# Altium schematic symbol library fgr.SchLib: 763 symbols (part 2 of 4)
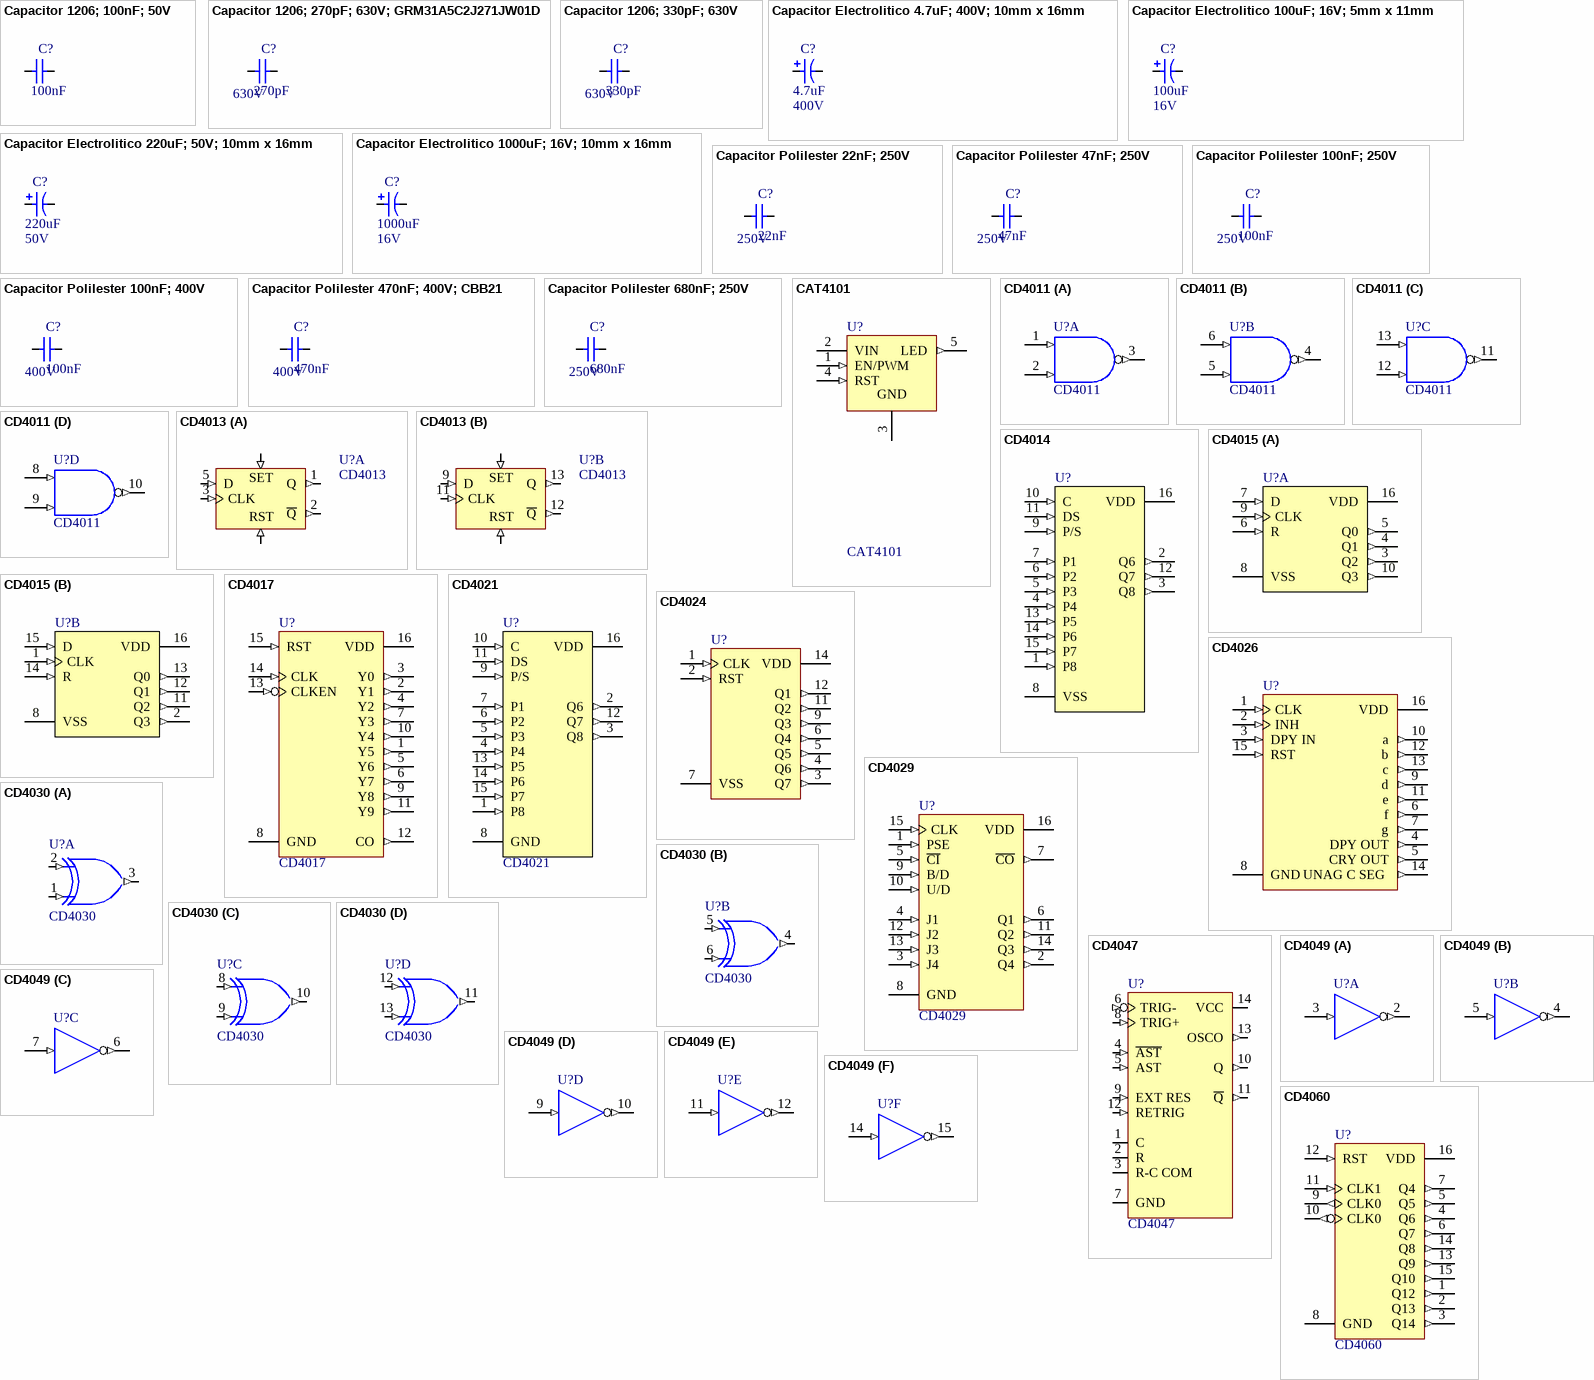
[diagram p25: symbols Capacitor 1206; 100nF; 50V to CD4060]

## Capacitor Polilester 470nF; 400V; CBB21
designator C?  Voltaje: 400V  Capacidad: 470nF  (hidden comment: Capacitor Polilester 470nF; 400V; CBB21)
Dolares Elemon: 0.21420; Codigo Elemon: CA8029620
simulation model CAPACITOR (Capacitor)
footprint CAP 6MM x 17MM - 600MILS (CAPACITOR THROUGH-HOLE)
pins: 1, 2

## Capacitor Polilester 680nF; 250V
designator C?  Voltaje: 250V  Capacidad: 680nF  (hidden comment: Capacitor Polilester 680nF; 250V)
Dolares Elemon: 0.32151; Codigo Elemon: CA3509329
simulation model CAPACITOR (Capacitor)
footprint cap600th_18x9
pins: 1, 2

## CAT4101
designator U?
Revision: 17-Jul-2002: Re-released for DXP Platform.
footprint TO263-5 (ENCAPSULADO TO263)
pins: 1 EN/PWM (in), 2 VIN (power), 3 GND (power), 4 RST (in), 5 LED (out)

## CD4011
designator U?
Quad 2-Input NAND Gate; Price: ?
footprint DIP14 (DIP14 IC)
pins on every part: 7 GND (power) hidden to GND, 14 VCC (power) hidden to VCC
part A pins: 1 A (in), 2 B (in), 3 ~{O} (out)
part B pins: 4 ~{O} (out), 5 B (in), 6 A (in)
part C pins: 11 ~{O} (out), 12 B (in), 13 A (in)
part D pins: 8 A (in), 9 B (in), 10 ~{O} (out)

## CD4013
designator U?
Dual D-Type Flip-Flop
footprint dip14z (ZOCALO DIP14)
pins on every part: 7 GND (power) hidden to GND, 14 VDD (power) hidden to VDD
part A pins: 1 Q (out), 2 ~{Q} (out), 3 CLK (in), 4 RST (in), 5 D (in), 6 S (in)
part B pins: 8 S (in), 9 D (in), 10 RST (in), 11 CLK (in), 12 ~{Q} (out), 13 Q (out)
part A text: SET
part B text: SET

## CD4014
designator U?
8-Bit Static Shift Register; Price: ?
footprint DIP16 (DIP16 IC)
footprint DIP16Z (ZOCALO DIP16)
pins: 1 P8 (in), 2 Q6 (out), 3 Q8 (out), 4 P4 (in), 5 P3 (in), 6 P2 (in), 7 P1 (in), 8 VSS (power), 9 P/S (in), 10 C (in), 11 DS (in), 12 Q7 (out), 13 P5 (in), 14 P6 (in), 15 P7 (in), 16 VDD (power)

## CD4015
designator U?
Dual 4-Bit Static Shift Register; Price: ?
footprint DIP16Z (ZOCALO DIP16)
pins on every part: 8 VSS (power), 16 VDD (power)
part A pins: 3 Q2 (out), 4 Q1 (out), 5 Q0 (out), 6 R (in), 7 D (in), 9 CLK (in), 10 Q3 (out)
part B pins: 1 CLK (in), 2 Q3 (out), 11 Q2 (out), 12 Q1 (out), 13 Q0 (out), 14 R (in), 15 D (in)

## CD4017
designator U?
Decade Counter / Divider; Published: 8-Jun-2000; LatestRevisionDate: 04-Mar-2005; LatestRevisionNote: Stylized 3D Model Added.; DatasheetVersion: Jun-1989; PackageVersion: Jun-1999; PackageReference: J016; Publisher: Altium Limited; PackageDescription: DIP; 16 Leads; Row Spacing 7.62 mm; Pitch 2.54 mm; ComponentLink1Description: Manufacturer Link; ComponentLink1URL: http://www.ti.com/; ComponentLink2Description: Datasheet; ComponentLink2URL: http://www-s.ti.com/sc/ds/sn74hc4017.pdf
footprint DIP16 (DIP16 IC)
pins: 1 Y5 (out), 2 Y1 (out), 3 Y0 (out), 4 Y2 (out), 5 Y6 (out), 6 Y7 (out), 7 Y3 (out), 8 GND (power), 9 Y8 (out), 10 Y4 (out), 11 Y9 (out), 12 CO (out), 13 CLKEN (in), 14 CLK (in), 15 RST (in), 16 VDD (power)

## CD4021
designator U?
8-Bit Static Shift Register
footprint DIP16Z (ZOCALO DIP16)
pins: 1 P8 (in), 2 Q6 (out), 3 Q8 (out), 4 P4 (in), 5 P3 (in), 6 P2 (in), 7 P1 (in), 8 GND (power), 9 P/S (in), 10 C (in), 11 DS (in), 12 Q7 (out), 13 P5 (in), 14 P6 (in), 15 P7 (in), 16 VDD (power)

## CD4024
designator U?
7-Stage Ripple Carry Binary Counter; Revision: 17-Jul-2002: Re-released for DXP Platform.
footprint DIP14Z (ZOCALO DIP14)
pins: 1 CLK (in), 2 RST (in), 3 Q7 (out), 4 Q6 (out), 5 Q5 (out), 6 Q4 (out), 7 VSS (power), 9 Q3 (out), 11 Q2 (out), 12 Q1 (out), 14 VDD (power)

## CD4026
designator U?
Decade Counter / Divider with Decoded 7-Segment Display Output; Revision: 17-Jul-2002: Re-released for DXP Platform.
footprint DIP16Z (ZOCALO DIP16)
pins: 1 CLK (in), 2 INH (in), 3 DPY IN (in), 4 DPY OUT (out), 5 CRY OUT (out), 6 f (out), 7 g (out), 8 GND (power), 9 d (out), 10 a (out), 11 e (out), 12 b (out), 13 c (out), 14 UNAG C SEG  (out), 15 RST (in), 16 VDD (power)

## CD4029
designator U?
Presettable Up/Down Counter Binary or BCD Decade; Published: 8-Jun-2000; LatestRevisionDate: 06-Jun-2005; LatestRevisionNote: Stylized 3D Model Added.; DatasheetVersion: Sep-1988; PackageVersion: Apr-1996; PackageReference: DIP16; Publisher: Altium Limited; PackageDescription: DIP; 16 Leads; Row Spacing 7.62 mm; Pitch 2.54 mm; ComponentLink1Description: Manufacturer Link; ComponentLink1URL: http://www.st.com/
footprint DIP16 (DIP; 16 Leads; Row Spacing 7.62 mm; Pitch 2.54 mm)
pins: 1 PSE (in), 2 Q4 (out), 3 J4 (in), 4 J1 (in), 5 ~{CI} (in), 6 Q1 (out), 7 ~{CO} (out), 8 GND (power), 9 B/D (in), 10 U/D (in), 11 Q2 (out), 12 J2 (in), 13 J3 (in), 14 Q3 (out), 15 CLK (in), 16 VDD (power)

## CD4030
designator U?
Quad EXCLUSIVE-OR Gate
footprint DIP14Z (ZOCALO DIP14)
pins on every part: 7 GND (power) hidden to GND, 14 VDD (power) hidden to VDD
part A pins: 1 B (in), 2 A (in), 3 J (out)
part B pins: 4 J (out), 5 A (in), 6 B (in)
part C pins: 8 A (in), 9 B (in), 10 J (out)
part D pins: 11 J (out), 12 A (in), 13 B (in)

## CD4047
designator U?
Low-Power Monostable/Astable Multivibrator
footprint DIP14Z (ZOCALO DIP14)
pins: 1 C, 2 R, 3 R-C COM, 4 ~{AST} (in), 5 AST (in), 6 TRIG- (in), 7 GND (power), 8 TRIG+ (in), 9 EXT RES (in), 10 Q (out), 11 ~{Q} (out), 12 RETRIG (in), 13 OSCO (out), 14 VCC (power)

## CD4049
designator U?
Hex Buffer/Converter; Price: ?
footprint DIP16 (DIP16 IC)
footprint DIP16Z (ZOCALO DIP16)
pins on every part: 1 VCC (power) hidden to VCC, 8 GND (power) hidden to GND
part A pins: 2 G (out), 3 A (in)
part B pins: 4 H (out), 5 B (in)
part C pins: 6 I (out), 7 C (in)
part D pins: 9 D (in), 10 J (out)
part E pins: 11 E (in), 12 K (out)
part F pins: 14 F (in), 15 L (out)

## CD4060
designator U?
14-Stage Ripple Carry Binary Counter
footprint DIP16 (DIP16 IC)
footprint M16A_L (SOIC, 16-Leads, Body 9.9x3.9mm, Pitch 1.27mm, IPC High Density)
footprint M16A_M (SOIC, 16-Leads, Body 9.9x3.9mm, Pitch 1.27mm, IPC Low Density)
pins: 1 Q12 (out), 2 Q13 (out), 3 Q14 (out), 4 Q6 (out), 5 Q5 (out), 6 Q7 (out), 7 Q4 (out), 8 GND (power), 9 CLK0 (out), 10 CLK0 (out), 11 CLK1 (in), 12 RST (in), 13 Q9 (out), 14 Q8 (out), 15 Q10 (out), 16 VDD (power)

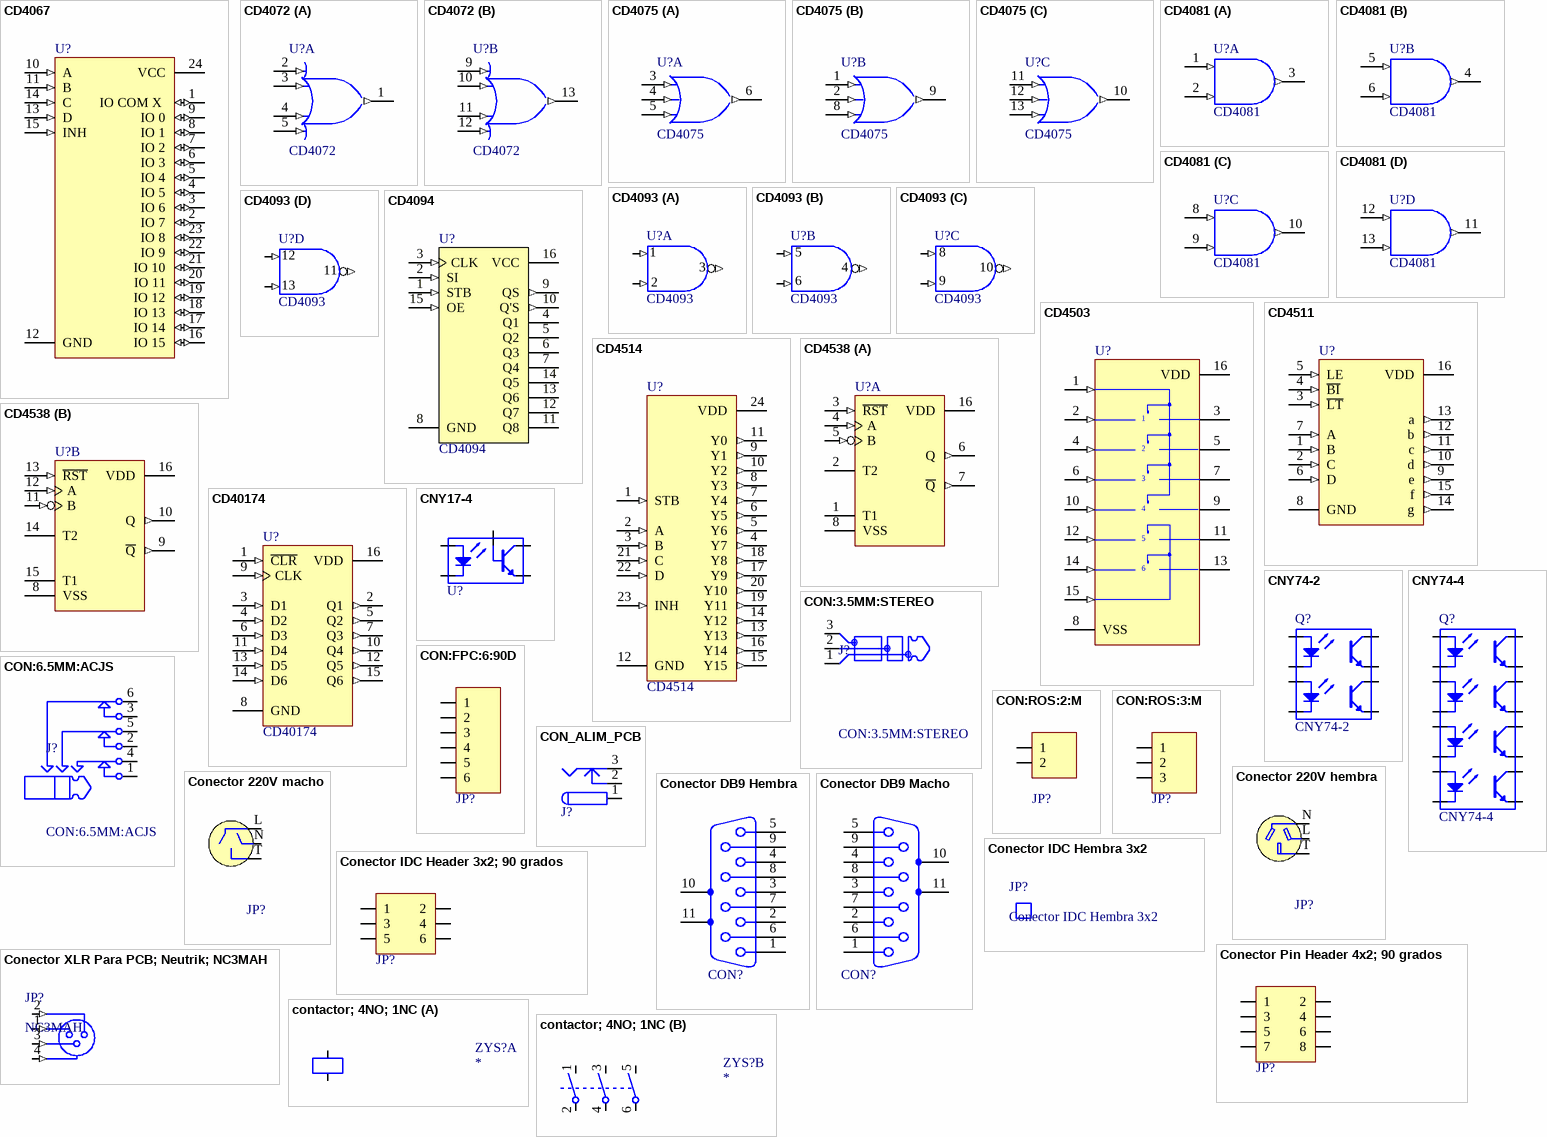
[diagram p7: symbols CD4067 to contactor; 4NO; 1NC]

## CD4067
designator U?
Analog Multiplexer/Demultiplexer; Package Information: Latest Revision: Sep-1988; Published: 8-Jun-2000; Revision: 17-Jul-2002: Re-released for DXP Platform.; Datasheet: Latest Revision: Sep-1988; Package Reference: CDIP24; Publisher: Altium Limited
footprint DIP24_600
pins: 1 IO COM X  (io), 2 IO 7 (io), 3 IO 6 (io), 4 IO 5 (io), 5 IO 4 (io), 6 IO 3 (io), 7 IO 2 (io), 8 IO 1 (io), 9 IO 0 (io), 10 A (in), 11 B (in), 12 GND (power), 13 D (in), 14 C (in), 15 INH (in), 16 IO 15 (io), 17 IO 14 (io), 18 IO 13 (io), 19 IO 12 (io), 20 IO 11 (io), 21 IO 10 (io), 22 IO 9 (io), 23 IO 8 (io), 24 VCC (power)

## CD4072
designator U?
Dual 4-Input OR Gate
footprint dip14z (ZOCALO DIP14)
pins on every part: 7 GND (power) hidden to GND, 14 VDD (power) hidden to VDD
part A pins: 1 J (out), 2 A (in), 3 B (in), 4 C (in), 5 D (in)
part B pins: 9 E (in), 10 F (in), 11 G (in), 12 H (in), 13 K (out)

## CD4075
designator U?
Triple 3-Input OR Gate
footprint dip14z (ZOCALO DIP14)
pins on every part: 7 GND (power) hidden to GND, 14 VCC (power) hidden to VCC
part A pins: 3 A (in), 4 B (in), 5 C (in), 6 Y (out)
part B pins: 1 A (in), 2 B (in), 8 C (in), 9 Y (out)
part C pins: 10 Y (out), 11 A (in), 12 B (in), 13 C (in)

## CD4081
designator U?
Quad 2-Input AND Buffered B series Gate
footprint DIP14 (DIP14 IC)
footprint M14A_L (SOIC, 14-Leads, Body 8.6x3.9mm, Pitch 1.27mm, IPC High Density)
footprint M14A_M (SOIC, 14-Leads, Body 8.6x3.9mm, Pitch 1.27mm, IPC Low Density)
pins on every part: 7 GND (power) hidden to GND, 14 VDD (power) hidden to VDD
part A pins: 1 A (in), 2 B (in), 3 J (out)
part B pins: 4 J (out), 5 A (in), 6 B (in)
part C pins: 8 A (in), 9 B (in), 10 J (out)
part D pins: 11 J (out), 12 A (in), 13 B (in)

## CD4093
designator U?
Quad 2-Input NAND Schmitt Trigger
footprint DIP14Z (ZOCALO DIP14)
pins on every part: 7 GND (power) hidden to GND, 14 VCC (power) hidden to VCC
part A pins: 1 A (in), 2 B (in), 3 J (out)
part B pins: 4 K (out), 5 C (in), 6 D (in)
part C pins: 8 E (in), 9 F (in), 10 L (out)
part D pins: 11 M (out), 12 G (in), 13 H (in)

## CD4094
designator U?
8 Bit SIPO Shift Latch Register (3-State); Price: ?
footprint dip16z (ZOCALO DIP16)
pins: 1 STB (in), 2 SI (in), 3 CLK (in), 4 Q1 (hiz), 5 Q2 (hiz), 6 Q3 (hiz), 7 Q4 (hiz), 8 GND (power), 9 QS (out), 10 Q'S (out), 11 Q8 (hiz), 12 Q7 (hiz), 13 Q6 (hiz), 14 Q5 (hiz), 15 OE (in), 16 VCC (power)

## CD4503
designator U?
Hex Non-Inverting 3-State Buffer; Price: ?
footprint DIP16 (DIP16 IC)
footprint DIP16Z (ZOCALO DIP16)
pins: 1 DISA (in), 2 IN1 (in), 3 OUT1 (hiz), 4 IN2 (in), 5 OUT2 (hiz), 6 IN3 (in), 7 OUT3 (hiz), 8 VSS (power), 9 OUT4 (hiz), 10 IN4 (in), 11 OUT5 (hiz), 12 IN5 (in), 13 OUT6 (hiz), 14 IN6 (in), 15 DISB (in), 16 VDD (power)

## CD4511
designator U?
BCD-to-7 Segment Latch/Decoder/Driver
footprint DIP16Z (ZOCALO DIP16)
pins: 1 B (in), 2 C (in), 3 ~{LT} (in), 4 ~{BI} (in), 5 LE (in), 6 D (in), 7 A (in), 8 GND (power), 9 e (out), 10 d (out), 11 c (out), 12 b (out), 13 a (out), 14 g (out), 15 f (out), 16 VDD (power)

## CD4514
designator U?
4 Bit Latched/4-to-16-Line Decoder; Published: 17-Jul-2002; LatestRevisionDate: 04-Mar-2005; LatestRevisionNote: Stylized 3D Model Added.; DatasheetVersion: Jan-1999; PackageVersion: 2000; PackageReference: N24A; Publisher: Altium Limited; PackageDescription: DIP; 24 Leads; Row Spacing 15.24 mm; Pitch 2.54 mm; ComponentLink1Description: Manufacturer Link; ComponentLink1URL: http://www.fairchildsemi.com/; ComponentLink2Description: Datasheet; ComponentLink2URL: http://www.fairchildsemi.com/ds/CD%2FCD4514BC.pdf
footprint dip24w (DIP; 24 Leads; Row Spacing 15.24 mm; Pitch 2.54 mm)
pins: 1 STB (in), 2 A (in), 3 B (in), 4 Y7 (out), 5 Y6 (out), 6 Y5 (out), 7 Y4 (out), 8 Y3 (out), 9 Y1 (out), 10 Y2 (out), 11 Y0 (out), 12 GND (power), 13 Y13 (out), 14 Y12 (out), 15 Y15 (out), 16 Y14 (out), 17 Y9 (out), 18 Y8 (out), 19 Y11 (out), 20 Y10 (out), 21 C (in), 22 D (in), 23 INH (in), 24 VDD (power)

## CD4538
designator U?
Dual Monostable Multivibrator; Price: ?
footprint SO16 (SO16 IC)
footprint SOIC16 (SOIC 16 IC)
pins on every part: 8 VSS (power), 16 VDD (power)
part A pins: 1 T1, 2 T2, 3 ~{RST} (in), 4 A (in), 5 B (in), 6 Q (out), 7 ~{Q} (out)
part B pins: 9 ~{Q} (out), 10 Q (out), 11 B (in), 12 A (in), 13 ~{RST} (in), 14 T2, 15 T1

## CD40174
designator U?
Hex D-Type Flip-Flop
footprint dip16z (ZOCALO DIP16)
pins: 1 ~{CLR} (in), 2 Q1 (out), 3 D1 (in), 4 D2 (in), 5 Q2 (out), 6 D3 (in), 7 Q3 (out), 8 GND (power), 9 CLK (in), 10 Q4 (out), 11 D4 (in), 12 Q5 (out), 13 D5 (in), 14 D6 (in), 15 Q6 (out), 16 VDD (power)

## CNY17-4
designator U?
Optoaislador; Price: ?
footprint DIP6Z (ZOCALO DIP 6)
simulation model OPTOCOUPLER (SUBCKT)
pins: 1 A, 2 K, 4 E, 5 C, 6 B

## CNY74-2
designator Q?
Optoaislador; Price: ?
footprint DIP8Z (ZOCALO DIP 8)
pins: 1 A, 2 K, 3 K, 4 A, 5 E, 6 C, 7 C, 8 E

## CNY74-4
designator Q?
Optoaislador; Price: ?
footprint DIP16Z (ZOCALO DIP16)
pins: 1 A, 2 K, 3 K, 4 A, 5 A, 6 K, 7 K, 8 A, 9 E, 10 C, 11 C, 12 E, 13 E, 14 C, 15 C, 16 E

## CON:3.5MM:STEREO
designator J?
Stereo 3.5mm audio connector male
pins: 1, 2, 3

## CON:6.5MM:ACJS
designator J?
CON:6.5MM:ACJS Stereo audio connector
footprint audio6.5
footprint CON:6.5MM:ACJS
pins: 1, 2, 3, 4, 5, 6

## CON:FPC:6:90D
designator JP?  (value not drawn)
Header 6x1; Price: ?
footprint CON:FPC:6:90D (Footprint not found)
footprint CONPOL6x1_90
footprint BORNERA_E6
footprint CONPOL6x1
footprint HDR6x1_90
footprint CONPOL6x1-.156
pins: 1, 2, 3, 4, 5, 6

## CON:ROS:2:M
designator JP?  (value not drawn)
Price: ?
footprint CON_ROS_2_M
pins: 1, 2

## CON:ROS:3:M
designator JP?  (value not drawn)
Price: ?
footprint CON_ROS_3_M
pins: 1, 2, 3

## CON_ALIM_PCB
designator J?  (value not drawn)
Conector DC Alimentacion 2mm; 90 grados; Codigo Elemon: MC6691355; Dolares Elemon: 0.24205
footprint CON_ALIM_PCB_V2 (Footprint not found)
footprint CON_ALIM_PCB
footprint CON_ALIM_CH
pins: 1 (power), 2 (power), 3 (power)

## Conector 220V hembra
designator JP?  (value not drawn)
Con220V; Price: ?
pins: 1, 2, 3
text: N; L; T

## Conector 220V macho
designator JP?  (value not drawn)
Con220V; Price: ?
pins: 1, 2, 3
text: L; N; T

## Conector DB9 Hembra
designator CON?  (value not drawn)
Price: ?
footprint db9_female
pins: 1, 2, 3, 4, 5, 6, 7, 8, 9, 10 MH1, 11 MH2

## Conector DB9 Macho
designator CON?  (value not drawn)
Price: ?
footprint DB9_MALE (Conector DB9)
pins: 1, 2, 3, 4, 5, 6, 7, 8, 9, 10 MH1, 11 MH2

## Conector IDC Header 3x2; 90 grados
designator JP?  (value not drawn)
Codigo Ebay: 171048592886; Dolares Ebay x100: 19.99
footprint IDC3X2_90
pins: 1, 2, 3, 4, 5, 6

## Conector IDC Hembra 3x2
designator JP?  (mechanical)
Codigo Ebay: 121471788305; Dolares Mouser x100: 8.35

## Conector Pin Header 4x2; 90 grados
designator JP?  (value not drawn)
Codigo Elemon: CO4901090; Dolares Elemon x0.1: 0.66710
footprint HDR4x2_90
pins: 1, 2, 3, 4, 5, 6, 7, 8

## Conector XLR Para PCB; Neutrik; NC3MAH
designator JP?, comment NC3MAH
Conector XLR Para PCB; Neutrik; NC3MAH; Codigo Mouser: 568-NC3MAH; Dolares Mouser: 1.22; Dolares Mouser x10: 1.19; Dolares Mouser x25: 1.12; Dolares Mouser x50: 1.07; Dolares Mouser x100: 1.03
footprint XLR NC3MAH
pins: 1 (in), 2 (in), 3 (in), 4 (in)

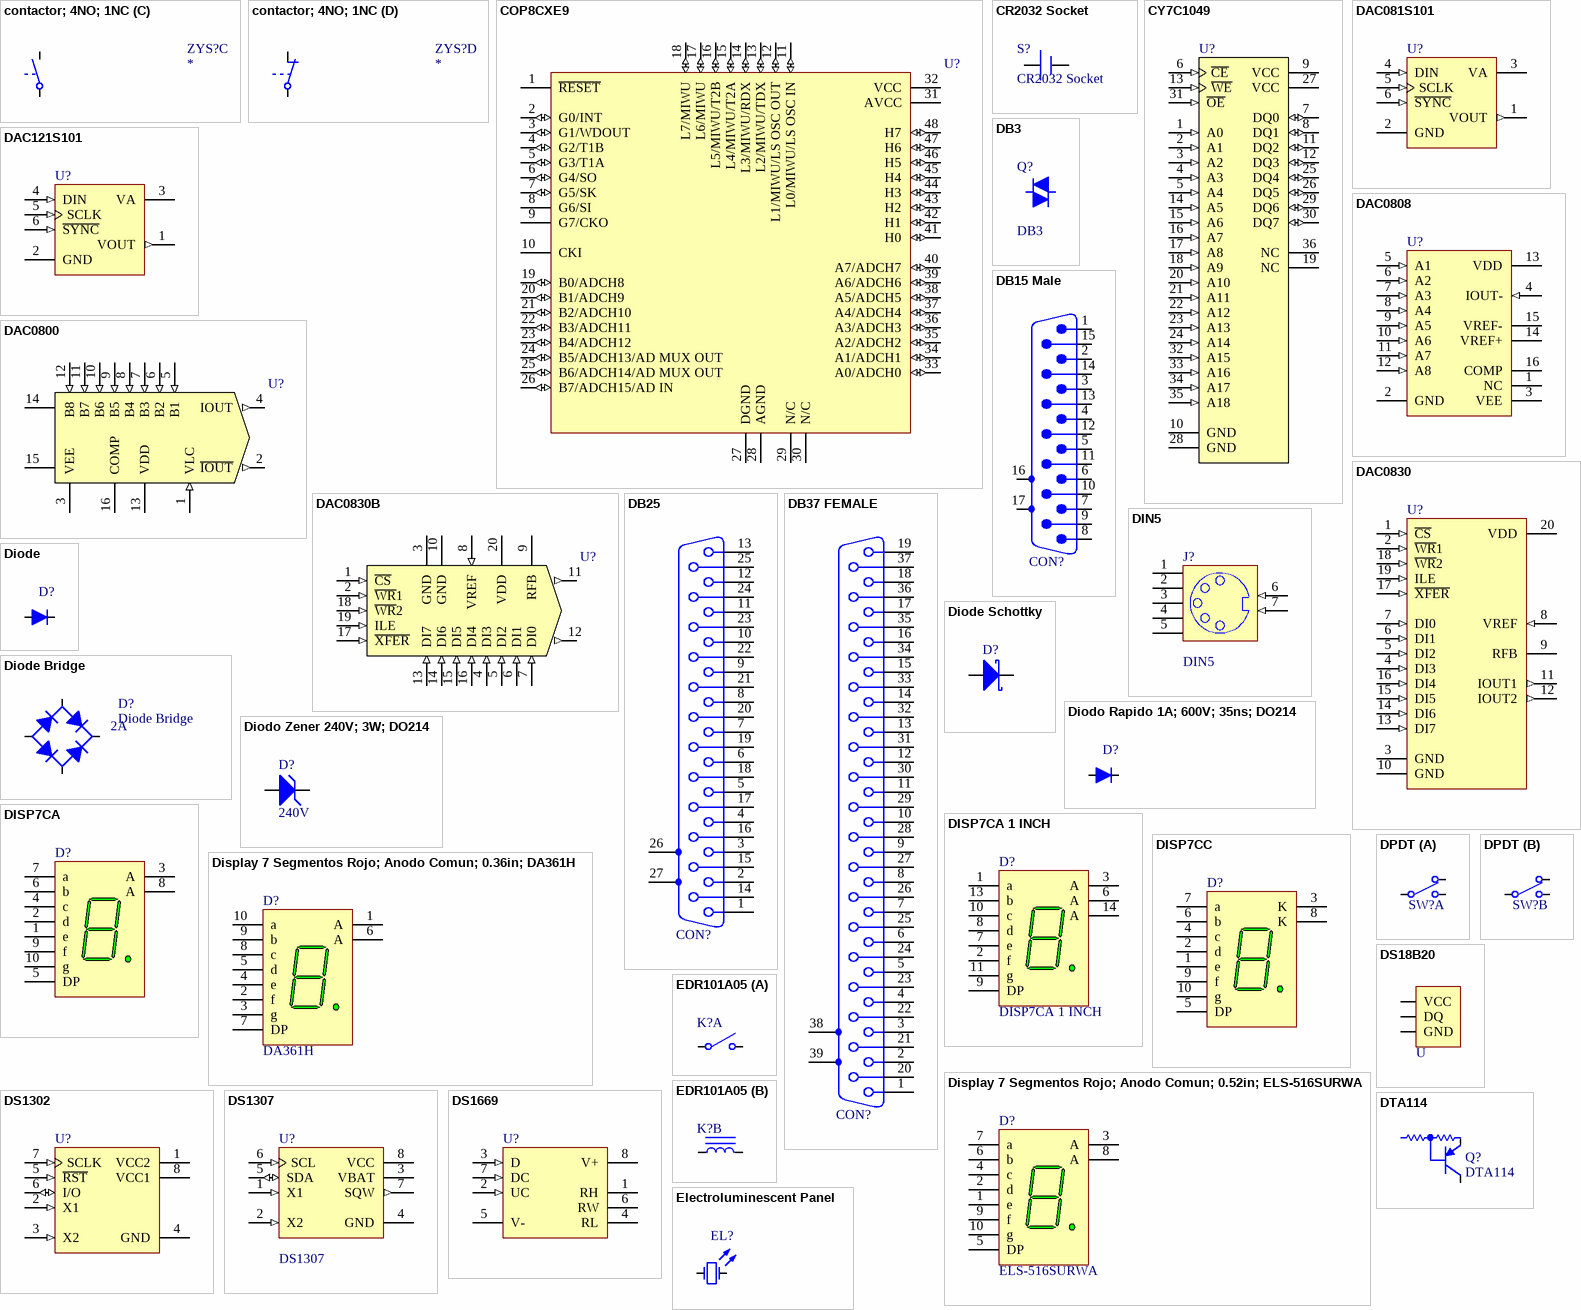
[diagram p8: symbols contactor; 4NO; 1NC to Electroluminescent Panel]

## contactor; 4NO; 1NC
designator ZYS?
part A pins: A1, A2
part B pins: 1, 2, 3, 4, 5, 6
part C pins: 13, 14
part D pins: 21, 22

## COP8CXE9
designator U?
8-Bit Microcontroller; Price: ?
footprint TSSOP48 (TSSOP 48 IC)
pins: 1 ~{RESET}, 2 G0/INT (io), 3 G1/WDOUT (io), 4 G2/T1B (io), 5 G3/T1A (io), 6 G4/SO (io), 7 G5/SK (io), 8 G6/SI, 9 G7/CKO, 10 CKI, 11 L0/MIWU/LS OSC IN (io), 12 L1/MIWU/LS OSC OUT (io), 13 L2/MIWU/TDX (io), 14 L3/MIWU/RDX (io), 15 L4/MIWU/T2A (io), 16 L5/MIWU/T2B (io), 17 L6/MIWU (io), 18 L7/MIWU (io), 19 B0/ADCH8 (io), 20 B1/ADCH9 (io), 21 B2/ADCH10 (io), 22 B3/ADCH11 (io), 23 B4/ADCH12 (io), 24 B5/ADCH13/AD MUX OUT (io), 25 B6/ADCH14/AD MUX OUT (io), 26 B7/ADCH15/AD IN (io), 27 DGND (power), 28 AGND (power), 29 N/C, 30 N/C, 31 AVCC (power), 32 VCC (power), 33 A0/ADCH0 (io), 34 A1/ADCH1 (io), 35 A2/ADCH2 (io), 36 A3/ADCH3 (io), 37 A4/ADCH4 (io), 38 A5/ADCH5 (io), 39 A6/ADCH6 (io), 40 A7/ADCH7 (io), 41 H0 (io), 42 H1 (io), 43 H2 (io), 44 H3 (io), 45 H4 (io), 46 H5 (io), 47 H6 (io), 48 H7 (io)

## CR2032 Socket
designator S?
footprint CR2032_UE
pins: 1 +, 2 -

## CY7C1049
designator U?
512K x 8 SRAM; Revision: 17-Jul-2002: PCB footprint, 'DIP-P32/X1.2' replaced; Re-released for DXP Platform.
pins: 1 A0 (in), 2 A1 (in), 3 A2 (in), 4 A3 (in), 5 A4 (in), 6 ~{CE} (in), 7 DQ0 (io), 8 DQ1 (io), 9 VCC (power), 10 GND (power), 11 DQ2 (io), 12 DQ3 (io), 13 ~{WE} (in), 14 A5 (in), 15 A6 (in), 16 A7 (in), 17 A8 (in), 18 A9 (in), 19 NC, 20 A10 (in), 21 A11 (in), 22 A12 (in), 23 A13 (in), 24 A14 (in), 25 DQ4 (io), 26 DQ5 (io), 27 VCC (power), 28 GND (power), 29 DQ6 (io), 30 DQ7 (io), 31 ~{OE} (in), 32 A15 (in), 33 A16 (in), 34 A17 (in), 35 A18 (in), 36 NC

## DAC081S101
designator U?
8-Bit Digital-to-Analog Converter with RRO; Price: ?
footprint TSOT6 (Small Outline; 6 Leads; Body Width 3 mm; Pitch 1.27 mm)
pins: 1 VOUT (out), 2 GND (power), 3 VA (power), 4 DIN (in), 5 SCLK (in), 6 ~{SYNC} (in)

## DAC121S101
designator U?
12-Bit Digital-to-Analog Converter with RRO; Price: ?
footprint TSOT6 (Small Outline; 6 Leads; Body Width 3 mm; Pitch 1.27 mm)
pins: 1 VOUT (out), 2 GND (power), 3 VA (power), 4 DIN (in), 5 SCLK (in), 6 ~{SYNC} (in)

## DAC0800
designator U?
8-Bit Digital-to-Analog Converter
footprint DIP16Z (ZOCALO DIP16)
footprint DIP16 (DIP16 IC)
footprint so16 (SO16 IC)
pins: 1 VLC (in), 2 ~{IOUT} (out), 3 VEE (power), 4 IOUT (out), 5 B1 (in), 6 B2 (in), 7 B3 (in), 8 B4 (in), 9 B5 (in), 10 B6 (in), 11 B7 (in), 12 B8 (in), 13 VDD (power), 14 VREF+, 15 VREF-, 16 COMP

## DAC0808
designator U?
8-Bit D/A Converter; Package Information: Latest Revision: 2000; Published: 15-Apr-2002; Package Reference: N16A; Publisher: Altium Limited
footprint DIP16Z (ZOCALO DIP16)
pins: 1 NC, 2 GND (power), 3 VEE (power), 4 IOUT- (in), 5 A1 (in), 6 A2 (in), 7 A3 (in), 8 A4 (in), 9 A5 (in), 10 A6 (in), 11 A7 (in), 12 A8 (in), 13 VDD (power), 14 VREF+, 15 VREF-, 16 COMP

## DAC0830
designator U?
8-Bit µP-Compatible, Double-Buffered Digital-to-Analog Converter
footprint dip20Z
pins: 1 ~{CS} (in), 2 ~{WR}1 (in), 3 GND (power), 4 DI3 (in), 5 DI2 (in), 6 DI1 (in), 7 DI0 (in), 8 VREF (in), 9 RFB, 10 GND (power), 11 IOUT1 (out), 12 IOUT2 (out), 13 DI7 (in), 14 DI6 (in), 15 DI5 (in), 16 DI4 (in), 17 ~{XFER} (in), 18 ~{WR}2 (in), 19 ILE (in), 20 VDD (power)

## DAC0830B
designator U?
8-Bit µP-Compatible, Double-Buffered Digital-to-Analog Converter
footprint dip20Z
pins: 1 ~{CS} (in), 2 ~{WR}1 (in), 3 GND (power), 4 DI3 (in), 5 DI2 (in), 6 DI1 (in), 7 DI0 (in), 8 VREF (in), 9 RFB, 10 GND (power), 11 IOUT1 (out), 12 IOUT2 (out), 13 DI7 (in), 14 DI6 (in), 15 DI5 (in), 16 DI4 (in), 17 ~{XFER} (in), 18 ~{WR}2 (in), 19 ILE (in), 20 VDD (power)

## DB3
designator Q?
Diac; Revision: July-2002: Re-released for DXP Platform.
footprint DO35
pins: 1 M1, 2 M2

## DB15 Male
designator CON?  (value not drawn)
Price: ?
footprint HDR5x1 (HEADER 5x1)
pins: 1, 2, 3, 4, 5, 6, 7, 8, 9, 10, 11, 12, 13, 14, 15, 16 MH1, 17 MH2

## DB25
designator CON?
Conector DB25; Price: ?
footprint DB25_MALE (CONECTOR DB25)
pins: 1, 2, 3, 4, 5, 6, 7, 8, 9, 10, 11, 12, 13, 14, 15, 16, 17, 18, 19, 20, 21, 22, 23, 24, 25, 26 MH1, 27 MH2

## DB37 FEMALE
designator CON?  (value not drawn)
Conector DB37 Female; Price: ?
footprint DB37_FEMALE (CONECTOR DB37)
pins: 1, 2, 3, 4, 5, 6, 7, 8, 9, 10, 11, 12, 13, 14, 15, 16, 17, 18, 19, 20, 21, 22, 23, 24, 25, 26, 27, 28, 29, 30, 31, 32, 33, 34, 35, 36, 37, 38, 39

## DIN5
designator J?
footprint din5
pins: 1, 2, 3, 4, 5, 6 (in), 7 (in)

## Diode
designator D?
Diodo; Price: ?
footprint DIODE300 (DIODO THROUGH-HOLE)
footprint dsmd2mm (DIODO SMD)
footprint RCSMD (RESISTENCIA/CAPACITOR DE MONTAJE SUPERFICIAL)
footprint diode300 (DIODO THROUGH-HOLE)
footprint diode300_90
footprint DSMD1MM (DIODO SMD)
footprint DIODE600
simulation model DIODO (MDL)
footprint diode400
simulation model DIODE (SUBCKT)
footprint DSMD3
pins: 1, 2

## Diode Bridge
designator D?  Corriente: 2A
Full Wave Diode Bridge; Price: ?
footprint D_BR_KBL (DIODE BRIDGE)
footprint DIODE BRIDGE2
footprint Diode bridge3
simulation model Bridge (Ideal bridge)
footprint diode bridge4; pin to pad 1>3 3>4 4>1
footprint Diode Bridge5; pin to pad 1>3 3>4 4>1
pins: 1 A, 2 C, 3 K, 4 C

## Diode Schottky
designator D?
Schottky Diode; Revision: July-2002: Re-released for DXP Platform.
footprint DIODE300 (DIODO THROUGH-HOLE)
footprint diode600
pins: 1 A, 2 K

## Diodo Rapido 1A; 600V; 35ns; DO214
designator D?, comment ES1J  (value not drawn)
Diodo Rapido 1A; 600V; 35ns; DO214; Codigo Elemon: DI1321000; Dolares Elemon: 0.17181
simulation model DIODO (MDL)
footprint DO214
simulation model DIODE (SUBCKT)
pins: 1, 2

## Diodo Zener 240V; 3W; DO214
designator D?, comment Voltaje: 240V  (hidden comment: BZG03C240TR)
Diodo Zener 240V; 3W; DO214; Codigo Mouser: 78-BZG03C240-TR3; Dolares Mouser: 0.49; Dolares Mouser x10: 0.325; Dolares Mouser x100: 0.202; Dolares Mouser x500: 0.181
simulation model DZ (SUBCKT)
footprint DO214
pins: 1 A, 2 K

## DISP7CA
designator D?
CA 7-Segment Display; Price: ?
footprint DISP7 (DISPLAY 7 SEGMENTOS)
pins: 1 e "Cathode", 2 d "Cathode", 3 A "Anode", 4 c "Cathode", 5 DP "Cathode", 6 b "Cathode", 7 a "Cathode", 8 A "Anode", 9 f "Cathode", 10 g "Cathode"

## DISP7CA 1 INCH
designator D?
CA 7-Segment Display; Price: ?
footprint disp7_25mm (DISPLAY 7 SEGMENTOS)
pins: 1 a "Cathode", 2 f "Cathode", 3 A "Anode", 6 A "Anode", 7 e "Cathode", 8 d "Cathode", 9 DP "Cathode", 10 c "Cathode", 11 g "Cathode", 13 b "Cathode", 14 A "Anode"

## DISP7CC
designator D?
CC 7-Segment Display; Price: ?
footprint DISP7 (DISPLAY 7 SEGMENTOS)
pins: 1 e "Anode", 2 d "Anode", 3 K "Cathode", 4 c "Anode", 5 DP "Anode", 6 b "Anode", 7 a "Anode", 8 K "Cathode", 9 f "Anode", 10 g "Anode"

## Display 7 Segmentos Rojo; Anodo Comun; 0.36in; DA361H
designator D?, comment DA361H
footprint DISP7_2 (DISPLAY 7 SEGMENTOS)
pins: 1 A "Anode", 2 f "Cathode", 3 g "Cathode", 4 e "Cathode", 5 d "Cathode", 6 A "Anode", 7 DP "Cathode", 8 c "Cathode", 9 b "Cathode", 10 a "Cathode"

## Display 7 Segmentos Rojo; Anodo Comun; 0.52in; ELS-516SURWA
designator D?, comment ELS-516SURWA
Dolares Elemon: 0.62538; Codigo Elemon: OP1716590
footprint DISP7 (DISPLAY 7 SEGMENTOS)
pins: 1 e "Cathode", 2 d "Cathode", 3 A "Anode", 4 c "Cathode", 5 DP "Cathode", 6 b "Cathode", 7 a "Cathode", 8 A "Anode", 9 f "Cathode", 10 g "Cathode"

## DPDT
designator SW?  (value not drawn)
2 Switches de 2 posiciones; Price: ?
footprint 2PDT - CARLING
footprint 2pdt - alpha
part A pins: 1, 2, 3
part B pins: 4, 5, 6

## DS18B20
designator U  (value not drawn)
Temp Sensor; Price: ?
footprint conpol3x1 (CONECTOR POLARIZADO 3x1)
footprint TO92 (DISPOSITIVO DE ENCAPSULADO TO-92)
footprint BORNERA_E3 (BORNERA ENCHUFABLE 3 CONTACTOS)
footprint CONPOL3x1-.156 (CONECTOR POLARIZADO 2 CONTACTOR 0.156'' PASO)
footprint bornera3
footprint dc_plug
footprint BORNERA_E3_150mils (BORNERA ENCHUFABLE 3 CONTACTOS 150mils)
pins: 1 GND, 2 DQ, 3 VCC

## DS1302
designator U?
Trickle Charge Timekeeping Chip; Revision: 17-Jul-2002: Re-released for DXP Platform.
footprint DIP8Z (ZOCALO DIP 8)
footprint SO8 (SO8 IC)
pins: 1 VCC2 (power), 2 X1 (in), 3 X2 (in), 4 GND (power), 5 ~{RST} (in), 6 I/O (io), 7 SCLK (in), 8 VCC1 (power)

## DS1307
designator U?
Trickle Charge Timekeeping Chip; Revision: 17-Jul-2002: Re-released for DXP Platform.
footprint DIP8Z (ZOCALO DIP 8)
pins: 1 X1 (in), 2 X2 (in), 3 VBAT (power), 4 GND (power), 5 SDA (io), 6 SCL (in), 7 SQW (out), 8 VCC (power)

## DS1669
designator U?
Electronic Digital Rheostat
footprint DIP8Z (ZOCALO DIP 8)
pins: 1 RH, 2 UC (in), 3 D (in), 4 RL, 5 V- (power), 6 RW, 7 DC (in), 8 V+ (power)

## DTA114
designator Q?
footprint TO92D (DISPOSITIVO DE ENCAPSULADO TO-92)
pins: 1 GND, 2 OUT, 3 IN

## EDR101A05
designator K?  (value not drawn)
Price: ?
footprint SIP4
part A pins: 1, 7
part B pins: 3, 5

## Electroluminescent Panel
designator EL?, comment El  (value not drawn)
Electroluminescent Panel
pins: 1 OSC1, 2 OSC2

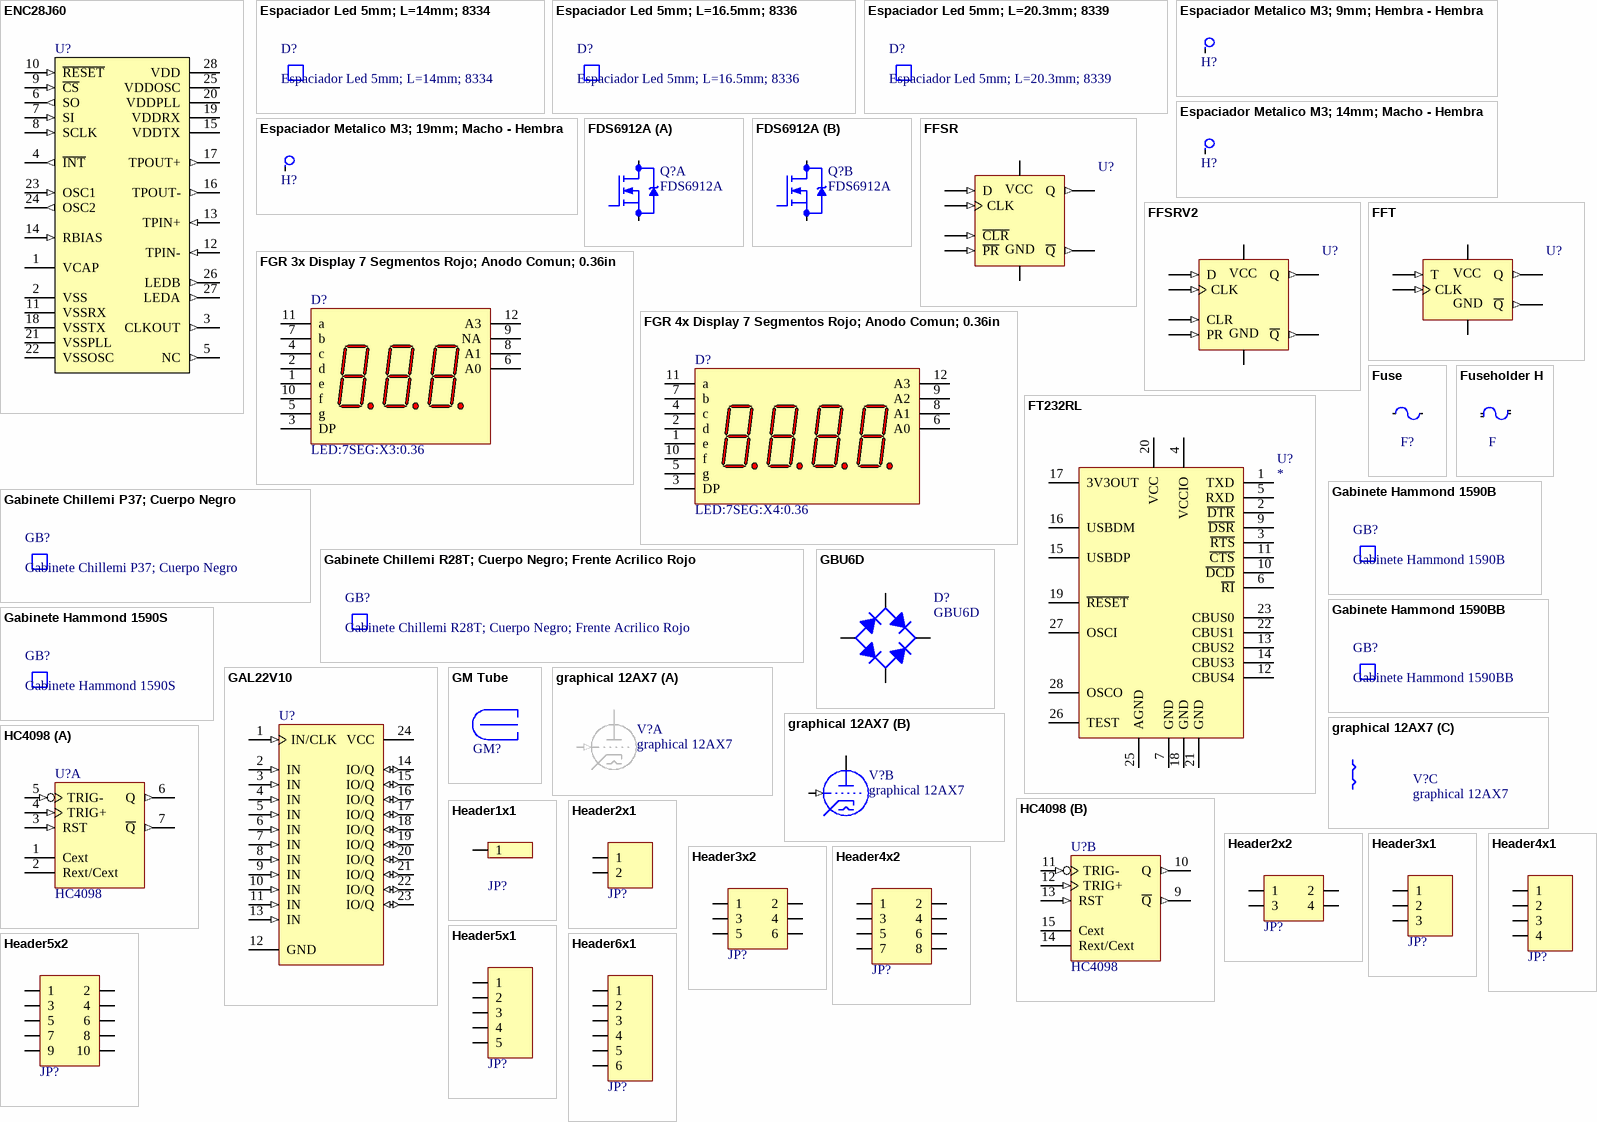
[diagram p9: symbols ENC28J60 to Header6x1]

## ENC28J60
designator U?
Stand-Alone Ethernet Controller with SPI Interface; Revision: 17-Jul-2002: Re-released for DXP Platform.
footprint dip28z2
pins: 1 VCAP (power), 2 VSS (power), 3 CLKOUT (out), 4 ~{INT} (out), 5 NC (out), 6 SO (out), 7 SI (in), 8 SCLK (in), 9 ~{CS} (in), 10 ~{RESET} (in), 11 VSSRX (power), 12 TPIN- (in), 13 TPIN+ (in), 14 RBIAS (in), 15 VDDTX (power), 16 TPOUT- (out), 17 TPOUT+ (out), 18 VSSTX (power), 19 VDDRX (power), 20 VDDPLL (power), 21 VSSPLL (power), 22 VSSOSC (power), 23 OSC1 (in), 24 OSC2 (out), 25 VDDOSC (power), 26 LEDB (out), 27 LEDA (out), 28 VDD (power)

## Espaciador Led 5mm; L=14mm; 8334
designator D?
Codigo Mouser: 534-8334; Dolares Mouser: 0.20; Dolares Mouser x50: 0.15; Dolares Mouser x100: 0.139; Dolares Mouser x500: 0.118
footprint espaciador 8334

## Espaciador Led 5mm; L=16.5mm; 8336
designator D?
Codigo Mouser: 534-8336; Dolares Mouser: 0.34; Dolares Mouser x1000: 0.099; Dolares Mouser x100: 0.20; Dolares Mouser x500: 0.141
footprint espaciador 8336

## Espaciador Led 5mm; L=20.3mm; 8339
designator D?
Codigo Mouser: 534-8339; Dolares Mouser: 0.22; Dolares Mouser x10: 0.217; Dolares Mouser x100: 0.151; Dolares Mouser x500: 0.128
footprint espaciador 8339

## Espaciador Metalico M3; 9mm; Hembra - Hembra
designator H?  (value not drawn)
Codigo Ebay: 351534073460; Dolares Ebay x100: 7.38
footprint espaciador M3 9mm - HE HE
pins: 1

## Espaciador Metalico M3; 14mm; Macho - Hembra
designator H?  (value not drawn)
Codigo Ebay: 261437849140; Dolares Ebay x100: 20.99
footprint espaciador M3 14mm agarre inferior
pins: 1

## Espaciador Metalico M3; 19mm; Macho - Hembra
designator H?  (value not drawn)
footprint espaciador M3 19mm
pins: 1

## FDS6912A
designator Q?
Price: ?
footprint SO8 (SO8 IC)
part A pins: 3 S1, 4 G1, 5 D1, 6 D1
part B pins: 1 S2, 2 G2, 7 D2, 8 D2

## FFSR
designator U?
D-Type Positive-Edge-Triggered Flip-Flop with Clear and Preset (simulación); Revision: 17-Jul-2002: Re-released for DXP Platform.
simulation model ffsr (SIMCODE)
pins: 1 ~{CLR} (in), 2 D (in), 3 CLK (in), 4 ~{PR} (in), 5 Q (out), 6 ~{Q} (out), 7 GND (power), 14 VCC (power)

## FFSRV2
designator U?
D-Type Positive-Edge-Triggered Flip-Flop with Clear and Preset (simulación); Revision: 17-Jul-2002: Re-released for DXP Platform.
simulation model ffsrv2 (SIMCODE)
pins: 1 CLR (in), 2 D (in), 3 CLK (in), 4 PR (in), 5 Q (out), 6 ~{Q} (out), 7 GND (power), 14 VCC (power)

## FFT
designator U?
Positive-Edge-Triggered Flip-Flop T (simulación); Revision: 17-Jul-2002: Re-released for DXP Platform.
simulation model fft (SIMCODE)
pins: 1 T (in), 2 CLK (in), 3 Q (out), 4 ~{Q} (out), 5 VCC (power), 6 GND (power)

## FGR 3x Display 7 Segmentos Rojo; Anodo Comun; 0.36in
designator D?, comment LED:7SEG:X3:0.36
footprint LED:7SEG:X3:0.36_FGR
pins: 1 e "Cathode", 2 d "Cathode", 3 DP "Cathode", 4 c "Cathode", 5 g "Cathode", 6 A0 "Anode", 7 b "Cathode", 8 A1 "Anode", 9 NA "Anode", 10 f "Cathode", 11 a "Cathode", 12 A3 "Anode"

## FGR 4x Display 7 Segmentos Rojo; Anodo Comun; 0.36in
designator D?, comment LED:7SEG:X4:0.36
footprint LED:7SEG:X4:0.36_FGR
pins: 1 e "Cathode", 2 d "Cathode", 3 DP "Cathode", 4 c "Cathode", 5 g "Cathode", 6 A0 "Anode", 7 b "Cathode", 8 A1 "Anode", 9 A2 "Anode", 10 f "Cathode", 11 a "Cathode", 12 A3 "Anode"

## FT232RL
designator U?
FT232R USB UART; Manufacturer: *; Note: *; ManufacturerPartNo: *
footprint SSOP28 (28-Pin SSOP 0.65 mm Pitch)
pins: 1 TXD, 2 ~{DTR}, 3 ~{RTS}, 4 VCCIO, 5 RXD, 6 ~{RI}, 7 GND, 8 NC hidden, 9 ~{DSR}, 10 ~{DCD}, 11 ~{CTS}, 12 CBUS4, 13 CBUS2, 14 CBUS3, 15 USBDP, 16 USBDM, 17 3V3OUT, 18 GND, 19 ~{RESET}, 20 VCC, 21 GND, 22 CBUS1, 23 CBUS0, 24 NC hidden, 25 AGND, 26 TEST, 27 OSCI, 28 OSCO
2 alternate drawings of the same symbol

## Fuse
designator F?  (value not drawn)
Price: ?
footprint fuse (FUSIBLE)
footprint res600th (2W)
pins: 1, 2

## Fuseholder H
designator F  (value not drawn)
Fuse; Price: ?
footprint FUSE_H (FUSIBLE)
pins: 1, 2, 3, 4

## Gabinete Chillemi P37; Cuerpo Negro
designator GB?
Codigo Chillemi: P37
footprint PLA_GAB_HAND_HALF (DISIPADOR)

## Gabinete Chillemi R28T; Cuerpo Negro; Frente Acrilico Rojo
designator GB?
Codigo Chillemi: R28T
footprint PLA_GAB_DIN_4X2_HALF (DISIPADOR)

## Gabinete Hammond 1590B
designator GB?  (mechanical)
Gabinete Hammond 1590BB; Codigo Mouser: 546-1590B; Dolares Mouser: 7.00; Dolares Mouser x10: 6.22; Dolares Mouser x25: 5.65; Dolares Mouser x50: 5.17

## Gabinete Hammond 1590BB
designator GB?  (mechanical)
Codigo Mouser: 546-1590BB; Dolares Mouser: 8.82; Dolares Mouser x10: 7.78; Dolares Mouser x25: 7.22; Dolares Mouser x50: 6.74

## Gabinete Hammond 1590S
designator GB?  (mechanical)
Codigo Mouser: 546-1590S; Dolares Mouser: 8.82; Dolares Mouser x10: 7.78; Dolares Mouser x25: 7.22; Dolares Mouser x50: 6.74

## GAL22V10
designator U?
Lattice GAL22V10 High Performance E²CMOS PLD Generic Array Logic
footprint DIP24Z
pins: 1 IN/CLK (in), 2 IN (in), 3 IN (in), 4 IN (in), 5 IN (in), 6 IN (in), 7 IN (in), 8 IN (in), 9 IN (in), 10 IN (in), 11 IN (in), 12 GND (power), 13 IN (in), 14 IO/Q (io), 15 IO/Q (io), 16 IO/Q (io), 17 IO/Q (io), 18 IO/Q (io), 19 IO/Q (io), 20 IO/Q (io), 21 IO/Q (io), 22 IO/Q (io), 23 IO/Q (io), 24 VCC (power)

## GBU6D
designator D?
footprint DIODE BRIDGE GBU6D
pins: 1 A, 2 C, 3 K, 4 C

## GM Tube
designator GM?
Geiger Muller Tube; Type: ?
footprint gm_tube
pins: 1, 2

## graphical 12AX7
designator V?  (graphical)
12AX7 Tube; Revision: July-2002: Re-released for DXP Platform.
part A pins: 1 PLATE, 2 GRID (in), 3 CATHODE
part B pins: 6 PLATE, 7 GRID (in), 8 CATHODE
part C pins: 4 HEATER, 5 HEATER, 9 HEATER

## HC4098
designator U?
Dual Monostable Multivibrator
footprint DIP16 (DIP16 IC)
pins on every part: 8 GND (power) hidden to GND, 16 VCC (power) hidden to VCC
part A pins: 1 Cext, 2 Rext/Cext, 3 RST (in), 4 TRIG+ (in), 5 TRIG- (in), 6 Q (out), 7 ~{Q} (out)
part B pins: 9 ~{Q} (out), 10 Q (out), 11 TRIG- (in), 12 TRIG+ (in), 13 RST (in), 14 Rext/Cext, 15 Cext

## Header1x1
designator JP?  (value not drawn)
Header 1x1; Price: ?
footprint bornera1
footprint hdr1x1
pins: 1

## Header2x1
designator JP?  (value not drawn)
Header 2x1; Price: ?
footprint CONPOL2X1 (CONECTOR POLARIZADO 2x1)
footprint HDR2x1 (HEADER 2x1)
footprint BORNERA_E2 (BORNERA ENCHUFABLE 2 CONTACTOS)
footprint CON_POL_156_2x1 (CONECTOR POLARIZADO 2 CONTACTOR 0.156'' PASO)
footprint CONPOL2x1_90
footprint bornera2
footprint HDR2x1_.2
pins: 1, 2

## Header2x2
designator JP?
Header 2x2; Price: ?
footprint hdr2x2
pins: 1, 2, 3, 4

## Header3x1
designator JP?  (value not drawn)
Header 3x1; Price: ?
footprint conpol3x1 (CONECTOR POLARIZADO 3x1)
footprint HDR3x1 (HEADER 3x1)
footprint BORNERA_E3 (BORNERA ENCHUFABLE 3 CONTACTOS)
footprint CON_POL_156_3x1 (CONECTOR POLARIZADO 2 CONTACTOR 0.156'' PASO)
footprint bornera3
footprint dc_plug
footprint BORNERA_E3_150mils (BORNERA ENCHUFABLE 3 CONTACTOS 150mils)
pins: 1, 2, 3

## Header3x2
designator JP?
Header 3x2; Price: ?
footprint hdr3x2 (HEADER 3x2)
pins: 1, 2, 3, 4, 5, 6

## Header4x1
designator JP?
Header 4x1; Price: ?
footprint HDR4x1 (HEADER 4x1)
footprint CONPOL4x1 (CONECTOR POLARIZADO 4x1)
footprint CONPOL4x1_90
footprint Bornera4
footprint BORNERA_E4
footprint CONPOL4x1-.156
pins: 1, 2, 3, 4

## Header4x2
designator JP?
Header 4x2; Price: ?
footprint hdr4x2 (HEADER 4x2)
pins: 1, 2, 3, 4, 5, 6, 7, 8

## Header5x1
designator JP?  (value not drawn)
Header 5x1; Price: ?
footprint HDR5x1 (HEADER 5x1)
footprint CONPOL5x1_90
footprint BORNERA_E5
footprint CONPOL5X1
pins: 1, 2, 3, 4, 5

## Header5x2
designator JP?  (value not drawn)
Header 5x2; Price: ?
footprint HDR5x2 (HEADER 5x2)
footprint IDC5x2
pins: 1, 2, 3, 4, 5, 6, 7, 8, 9, 10

## Header6x1
designator JP?
Header 6x1; Price: ?
footprint HDR6x1 (HEADER 6x1)
footprint CONPOL6x1_90
footprint BORNERA_E6
footprint CONPOL6x1
footprint HDR6x1_90
footprint CONPOL6x1-.156
pins: 1, 2, 3, 4, 5, 6

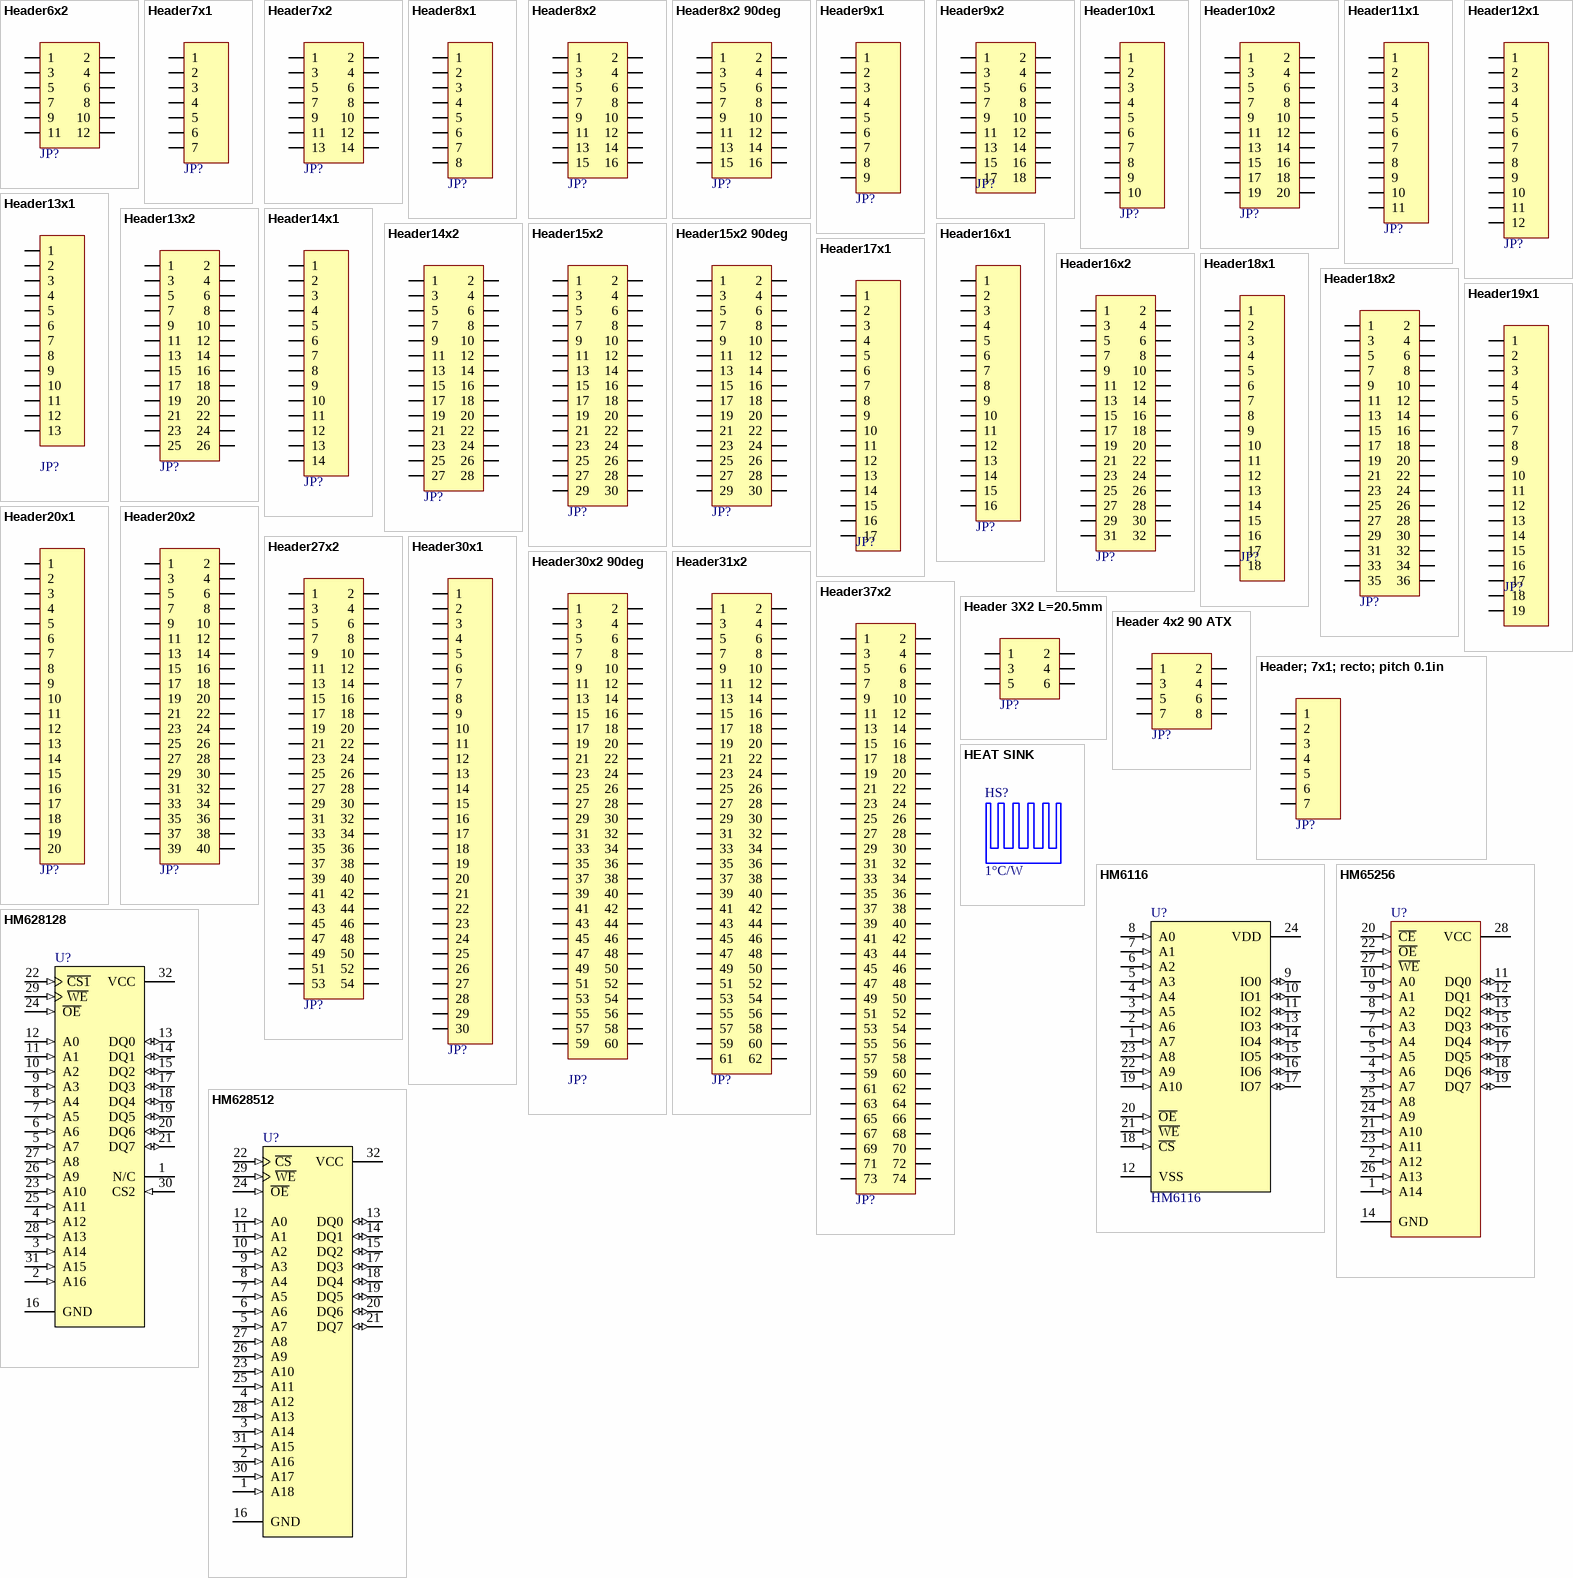
[diagram p10: symbols Header6x2 to HM628512]

## Header6x2
designator JP?
Header 6x2; Price: ?
footprint HDR6x2 (HEADER 6x2)
pins: 1, 2, 3, 4, 5, 6, 7, 8, 9, 10, 11, 12

## Header7x1
designator JP?  (value not drawn)
Header 7x1; Price: ?
footprint hdr7x1
footprint BORNERA_E7
footprint HDR7x1_90
pins: 1, 2, 3, 4, 5, 6, 7

## Header7x2
designator JP?
Header 7x2; Price: ?
footprint HDR7x2 (HEADER 7x2)
pins: 1, 2, 3, 4, 5, 6, 7, 8, 9, 10, 11, 12, 13, 14

## Header8x1
designator JP?
Header 8x1; Price: ?
footprint HDR8x1
footprint CONPOL8x1_90
footprint AMP_HDR8x1
footprint BORNERA_E8
footprint hdr8x1_90
pins: 1, 2, 3, 4, 5, 6, 7, 8

## Header8x2
designator JP?  (value not drawn)
Header 8x2; Price: ?
footprint HDR8x2 (HEADER 8x2)
footprint HDR8x290 (HEADER 8x2 a 90°)
footprint idc8x2
pins: 1, 2, 3, 4, 5, 6, 7, 8, 9, 10, 11, 12, 13, 14, 15, 16

## Header8x2 90deg
designator JP?  (value not drawn)
Price: ?
footprint HDR8x2_90
pins: 1, 2, 3, 4, 5, 6, 7, 8, 9, 10, 11, 12, 13, 14, 15, 16

## Header9x1
designator JP?
Header 9x1; Price: ?
footprint HDR9x1
pins: 1, 2, 3, 4, 5, 6, 7, 8, 9

## Header9x2
designator JP?  (value not drawn)
Header 9x2; Price: ?
footprint HDR9X2
footprint HDR8x290 (HEADER 8x2 a 90°)
pins: 1, 2, 3, 4, 5, 6, 7, 8, 9, 10, 11, 12, 13, 14, 15, 16, 17, 18

## Header10x1
designator JP?  (value not drawn)
Header 10x1; Price: ?
footprint HDR10x1
footprint hdr10x1_.2
footprint HDR10x1_90
pins: 1, 2, 3, 4, 5, 6, 7, 8, 9, 10

## Header10x2
designator JP?
Header 10x2; Price: ?
footprint HDR10x2 (HEADER 10x2)
pins: 1, 2, 3, 4, 5, 6, 7, 8, 9, 10, 11, 12, 13, 14, 15, 16, 17, 18, 19, 20

## Header11x1
designator JP?
Header 11x1; Price: ?
footprint HDR11x1
pins: 1, 2, 3, 4, 5, 6, 7, 8, 9, 10, 11

## Header12x1
designator JP?
Header 12x1; Price: ?
footprint HDR12x1
pins: 1, 2, 3, 4, 5, 6, 7, 8, 9, 10, 11, 12

## Header13x1
designator JP?  (value not drawn)
Header 13x1; Price: ?
footprint hdr13x1 (Footprint not found)
pins: 1, 2, 3, 4, 5, 6, 7, 8, 9, 10, 11, 12, 13

## Header13x2
designator JP?
Header 13x2; Price: ?
footprint HDR13x2
pins: 1, 2, 3, 4, 5, 6, 7, 8, 9, 10, 11, 12, 13, 14, 15, 16, 17, 18, 19, 20, 21, 22, 23, 24, 25, 26

## Header14x1
designator JP?
Header 14x1; Price: ?
footprint hdr14x1
pins: 1, 2, 3, 4, 5, 6, 7, 8, 9, 10, 11, 12, 13, 14

## Header14x2
designator JP?
Header 14x2; Price: ?
footprint HDR14x2
pins: 1, 2, 3, 4, 5, 6, 7, 8, 9, 10, 11, 12, 13, 14, 15, 16, 17, 18, 19, 20, 21, 22, 23, 24, 25, 26, 27, 28

## Header15x2
designator JP?
Header 15x2; Price: ?
footprint HDR15x2
pins: 1, 2, 3, 4, 5, 6, 7, 8, 9, 10, 11, 12, 13, 14, 15, 16, 17, 18, 19, 20, 21, 22, 23, 24, 25, 26, 27, 28, 29, 30

## Header15x2 90deg
designator JP?  (value not drawn)
Header 15x2 90deg; Price: ?
footprint HDR15x2_90
pins: 1, 2, 3, 4, 5, 6, 7, 8, 9, 10, 11, 12, 13, 14, 15, 16, 17, 18, 19, 20, 21, 22, 23, 24, 25, 26, 27, 28, 29, 30

## Header16x1
designator JP?
Header 16x1; Price: ?
footprint HDR16x1
pins: 1, 2, 3, 4, 5, 6, 7, 8, 9, 10, 11, 12, 13, 14, 15, 16

## Header16x2
designator JP?
Header 16x2; Price: ?
footprint HDR16x2 (HEADER 16x2)
pins: 1, 2, 3, 4, 5, 6, 7, 8, 9, 10, 11, 12, 13, 14, 15, 16, 17, 18, 19, 20, 21, 22, 23, 24, 25, 26, 27, 28, 29, 30, 31, 32

## Header17x1
designator JP?  (value not drawn)
Header 17x1; Price: ?
footprint HDR17x1
pins: 1, 2, 3, 4, 5, 6, 7, 8, 9, 10, 11, 12, 13, 14, 15, 16, 17

## Header18x1
designator JP?  (value not drawn)
Header 18x1; Price: ?
footprint HDR18x1
pins: 1, 2, 3, 4, 5, 6, 7, 8, 9, 10, 11, 12, 13, 14, 15, 16, 17, 18

## Header18x2
designator JP?  (value not drawn)
Header 18x2; Price: ?
footprint CON_BORDE36
footprint HDR18x2
pins: 1, 2, 3, 4, 5, 6, 7, 8, 9, 10, 11, 12, 13, 14, 15, 16, 17, 18, 19, 20, 21, 22, 23, 24, 25, 26, 27, 28, 29, 30, 31, 32, 33, 34, 35, 36

## Header19x1
designator JP?  (value not drawn)
Header 19x1; Price: ?
footprint HDR19x1
pins: 1, 2, 3, 4, 5, 6, 7, 8, 9, 10, 11, 12, 13, 14, 15, 16, 17, 18, 19

## Header20x1
designator JP?
Header 20x1; Price: ?
footprint HDR20x1 (Footprint not found)
pins: 1, 2, 3, 4, 5, 6, 7, 8, 9, 10, 11, 12, 13, 14, 15, 16, 17, 18, 19, 20

## Header20x2
designator JP?
Header 20x2; Price: ?
footprint HDR20x2_90
footprint hdr20x2
pins: 1, 2, 3, 4, 5, 6, 7, 8, 9, 10, 11, 12, 13, 14, 15, 16, 17, 18, 19, 20, 21, 22, 23, 24, 25, 26, 27, 28, 29, 30, 31, 32, 33, 34, 35, 36, 37, 38, 39, 40

## Header27x2
designator JP?
Header 27x2; Price: ?
footprint HDR27x2_90
pins: 1, 2, 3, 4, 5, 6, 7, 8, 9, 10, 11, 12, 13, 14, 15, 16, 17, 18, 19, 20, 21, 22, 23, 24, 25, 26, 27, 28, 29, 30, 31, 32, 33, 34, 35, 36, 37, 38, 39, 40, 41, 42, 43, 44, 45, 46, 47, 48, 49, 50, 51, 52, 53, 54

## Header30x1
designator JP?  (value not drawn)
Header 30x1; Price: ?
footprint HDR30x1_.2
footprint hdr30x1
pins: 1, 2, 3, 4, 5, 6, 7, 8, 9, 10, 11, 12, 13, 14, 15, 16, 17, 18, 19, 20, 21, 22, 23, 24, 25, 26, 27, 28, 29, 30

## Header30x2 90deg
designator JP?  (value not drawn)
Header 30x2 90deg; Price: ?
footprint HDR30x2 (Footprint not found)
pins: 1, 2, 3, 4, 5, 6, 7, 8, 9, 10, 11, 12, 13, 14, 15, 16, 17, 18, 19, 20, 21, 22, 23, 24, 25, 26, 27, 28, 29, 30, 31, 32, 33, 34, 35, 36, 37, 38, 39, 40, 41, 42, 43, 44, 45, 46, 47, 48, 49, 50, 51, 52, 53, 54, 55, 56, 57, 58, 59, 60

## Header31x2
designator JP?
Header 32x2; Price: ?
footprint HDR31x2
pins: 1, 2, 3, 4, 5, 6, 7, 8, 9, 10, 11, 12, 13, 14, 15, 16, 17, 18, 19, 20, 21, 22, 23, 24, 25, 26, 27, 28, 29, 30, 31, 32, 33, 34, 35, 36, 37, 38, 39, 40, 41, 42, 43, 44, 45, 46, 47, 48, 49, 50, 51, 52, 53, 54, 55, 56, 57, 58, 59, 60, 61, 62

## Header37x2
designator JP?
Header37x2
footprint hdr37x2_90
pins: 1, 2, 3, 4, 5, 6, 7, 8, 9, 10, 11, 12, 13, 14, 15, 16, 17, 18, 19, 20, 21, 22, 23, 24, 25, 26, 27, 28, 29, 30, 31, 32, 33, 34, 35, 36, 37, 38, 39, 40, 41, 42, 43, 44, 45, 46, 47, 48, 49, 50, 51, 52, 53, 54, 55, 56, 57, 58, 59, 60, 61, 62, 63, 64, 65, 66, 67, 68, 69, 70, 71, 72, 73, 74

## Header 3X2 L=20.5mm
designator JP?  (value not drawn)
Price: ?
footprint HDR3X2 20.5mm (HEADER 3x2)
pins: 1, 2, 3, 4, 5, 6

## Header 4x2 90 ATX
designator JP?  (value not drawn)
Price: ?
footprint HDR4x2_ATX_165_90
pins: 1, 2, 3, 4, 5, 6, 7, 8

## Header; 7x1; recto; pitch 0.1in
designator JP?, comment Header; 7x1; pitch 0.1in  (value not drawn)
Price: ?
footprint hdr7x1
pins: 1, 2, 3, 4, 5, 6, 7

## HEAT SINK
designator HS?  Thermal Resistance: 1°C/W
HEAT SINK; Price: ?
footprint HEATSINK01 (DISIPADOR)
footprint Heatsink02
footprint heatsink03
footprint HEATSINK04
footprint heatsink05
footprint HeatSink06

## HM6116
designator U?
Memory; Revision: 17-Jul-2002: Re-released for DXP Platform.
footprint DIP24W (DIP; 24 Leads; Row Spacing 15.24 mm; Pitch 2.54 mm)
pins: 1 A7 (in), 2 A6 (in), 3 A5 (in), 4 A4 (in), 5 A3 (in), 6 A2 (in), 7 A1 (in), 8 A0 (in), 9 IO0 (io), 10 IO1 (io), 11 IO2 (io), 12 VSS (power), 13 IO3 (io), 14 IO4 (io), 15 IO5 (io), 16 IO6 (io), 17 IO7 (io), 18 ~{CS} (in), 19 A10 (in), 20 ~{OE} (in), 21 ~{WE} (in), 22 A9 (in), 23 A8 (in), 24 VDD (power)

## HM65256
designator U?
256K Nonvolatile SRAM; Revision: 17-Jul-2002: PCB footprint, 'DIP-P28/X1.2' replaced; Re-released for DXP Platform.
footprint DIP28 (DIP28 IC)
pins: 1 A14 (in), 2 A12 (in), 3 A7 (in), 4 A6 (in), 5 A5 (in), 6 A4 (in), 7 A3 (in), 8 A2 (in), 9 A1 (in), 10 A0 (in), 11 DQ0 (io), 12 DQ1 (io), 13 DQ2 (io), 14 GND (power), 15 DQ3 (io), 16 DQ4 (io), 17 DQ5 (io), 18 DQ6 (io), 19 DQ7 (io), 20 ~{CE} (in), 21 A10 (in), 22 ~{OE} (in), 23 A11 (in), 24 A9 (in), 25 A8 (in), 26 A13 (in), 27 ~{WE} (in), 28 VCC (power)

## HM628128
designator U?
128K x 8 SRAM; Revision: 17-Jul-2002: PCB footprint, 'DIP-P32/X1.2' replaced; Re-released for DXP Platform.
footprint soic32
pins: 1 N/C, 2 A16 (in), 3 A14 (in), 4 A12 (in), 5 A7 (in), 6 A6 (in), 7 A5 (in), 8 A4 (in), 9 A3 (in), 10 A2 (in), 11 A1 (in), 12 A0 (in), 13 DQ0 (io), 14 DQ1 (io), 15 DQ2 (io), 16 GND (power), 17 DQ3 (io), 18 DQ4 (io), 19 DQ5 (io), 20 DQ6 (io), 21 DQ7 (io), 22 ~{CS1} (in), 23 A10 (in), 24 ~{OE} (in), 25 A11 (in), 26 A9 (in), 27 A8 (in), 28 A13 (in), 29 ~{WE} (in), 30 CS2 (in), 31 A15 (in), 32 VCC (power)

## HM628512
designator U?
512K x 8 SRAM; Revision: 17-Jul-2002: PCB footprint, 'DIP-P32/X1.2' replaced; Re-released for DXP Platform.
footprint soic32
pins: 1 A18 (in), 2 A16 (in), 3 A14 (in), 4 A12 (in), 5 A7 (in), 6 A6 (in), 7 A5 (in), 8 A4 (in), 9 A3 (in), 10 A2 (in), 11 A1 (in), 12 A0 (in), 13 DQ0 (io), 14 DQ1 (io), 15 DQ2 (io), 16 GND (power), 17 DQ3 (io), 18 DQ4 (io), 19 DQ5 (io), 20 DQ6 (io), 21 DQ7 (io), 22 ~{CS} (in), 23 A10 (in), 24 ~{OE} (in), 25 A11 (in), 26 A9 (in), 27 A8 (in), 28 A13 (in), 29 ~{WE} (in), 30 A17 (in), 31 A15 (in), 32 VCC (power)

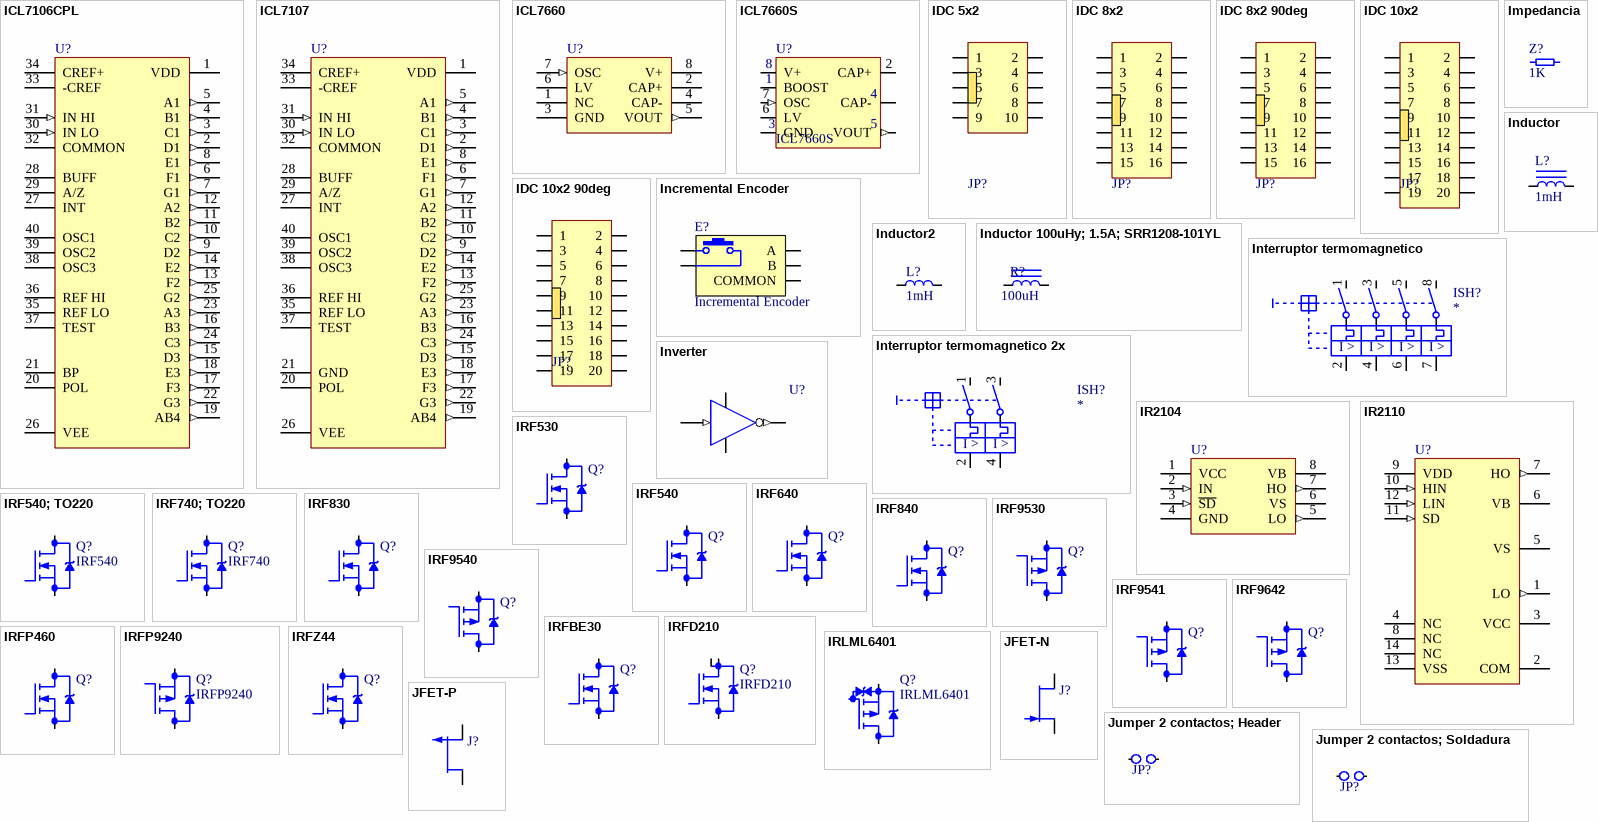
[diagram p11: symbols ICL7106CPL to Jumper 2 contactos; Soldadura]

## ICL7106CPL
designator U?
3½ Digit A/D Converter; Revision: 17-Jul-2002: Re-released for DXP Platform.
footprint DIP40z (DIP40 ZOCALO)
footprint DIP40 (DIP40 IC)
pins: 1 VDD (power), 2 D1 (out), 3 C1 (out), 4 B1 (out), 5 A1 (out), 6 F1 (out), 7 G1 (out), 8 E1 (out), 9 D2 (out), 10 C2 (out), 11 B2 (out), 12 A2 (out), 13 F2 (out), 14 E2 (out), 15 D3 (out), 16 B3 (out), 17 F3 (out), 18 E3 (out), 19 AB4 (out), 20 POL, 21 BP, 22 G3 (out), 23 A3 (out), 24 C3 (out), 25 G2 (out), 26 VEE (power), 27 INT, 28 BUFF, 29 A/Z, 30 IN LO (in), 31 IN HI (in), 32 COMMON, 33 -CREF, 34 CREF+, 35 REF LO, 36 REF HI, 37 TEST, 38 OSC3, 39 OSC2, 40 OSC1

## ICL7107
designator U?
3½ Digit A/D Converter; Revision: 17-Jul-2002: Re-released for DXP Platform.
footprint DIP40z (DIP40 ZOCALO)
footprint DIP40 (DIP40 IC)
pins: 1 VDD (power), 2 D1 (out), 3 C1 (out), 4 B1 (out), 5 A1 (out), 6 F1 (out), 7 G1 (out), 8 E1 (out), 9 D2 (out), 10 C2 (out), 11 B2 (out), 12 A2 (out), 13 F2 (out), 14 E2 (out), 15 D3 (out), 16 B3 (out), 17 F3 (out), 18 E3 (out), 19 AB4 (out), 20 POL, 21 GND, 22 G3 (out), 23 A3 (out), 24 C3 (out), 25 G2 (out), 26 VEE (power), 27 INT, 28 BUFF, 29 A/Z, 30 IN LO (in), 31 IN HI (in), 32 COMMON, 33 -CREF, 34 CREF+, 35 REF LO, 36 REF HI, 37 TEST, 38 OSC3, 39 OSC2, 40 OSC1

## ICL7660
designator U?
Switched Capacitor Voltage Converter
footprint DIP8Z (ZOCALO DIP 8)
pins: 1 NC, 2 CAP+, 3 GND (power), 4 CAP-, 5 VOUT (out), 6 LV, 7 OSC (in), 8 V+ (power)

## ICL7660S
designator U?
Switched Capacitor Voltage Converter
footprint DIP8Z (ZOCALO DIP 8)
pins: 1 BOOST, 2 CAP+, 3 GND (power), 4 CAP-, 5 VOUT (out), 6 LV, 7 OSC (in), 8 V+ (power)

## IDC 5x2
designator JP?  (value not drawn)
Price: ?
footprint HDR8x2 (HEADER 8x2)
footprint HDR8x290 (HEADER 8x2 a 90°)
footprint idc5x2
pins: 1, 2, 3, 4, 5, 6, 7, 8, 9, 10

## IDC 8x2
designator JP?  (value not drawn)
Price: ?
footprint HDR8x2 (HEADER 8x2)
footprint HDR8x290 (HEADER 8x2 a 90°)
footprint idc8x2
pins: 1, 2, 3, 4, 5, 6, 7, 8, 9, 10, 11, 12, 13, 14, 15, 16

## IDC 8x2 90deg
designator JP?  (value not drawn)
Price: ?
footprint HDR8x2 (HEADER 8x2)
footprint HDR8x290 (HEADER 8x2 a 90°)
footprint idc8x2_90
pins: 1, 2, 3, 4, 5, 6, 7, 8, 9, 10, 11, 12, 13, 14, 15, 16

## IDC 10x2
designator JP?  (value not drawn)
Price: ?
footprint HDR8x2 (HEADER 8x2)
footprint HDR8x290 (HEADER 8x2 a 90°)
footprint idc10x2
pins: 1, 2, 3, 4, 5, 6, 7, 8, 9, 10, 11, 12, 13, 14, 15, 16, 17, 18, 19, 20

## IDC 10x2 90deg
designator JP?  (value not drawn)
Price: ?
footprint HDR8x2 (HEADER 8x2)
footprint HDR8x290 (HEADER 8x2 a 90°)
footprint idc10x2_90
pins: 1, 2, 3, 4, 5, 6, 7, 8, 9, 10, 11, 12, 13, 14, 15, 16, 17, 18, 19, 20

## Impedancia
designator Z?  value 1K  (hidden comment: Impedancia)
Power: 0.25W; Price: 0.036
footprint RES250TH (RESISTENCIA THROUGH-HOLE)
footprint RES300TH (RESISTENCIA THROUGH-HOLE)
simulation model RESISTOR (Resistor)
footprint RES1100TH_ALAMBRE (RESISTOR DE ALAMBRE)
footprint R_3W_MF
footprint 1206NP
footprint 0805
footprint res400th
footprint res800th
footprint res500th
footprint RES2100TH_ALAMBRE
footprint RES1500TH_ALAMBRE
footprint res800th_vertical
footprint res250th_vertical
pins: 1, 2

## Incremental Encoder
designator E?
Incremental Encoder with Switch; Price: ?
footprint DIP16 (DIP16 IC)
footprint encoder (ENCODER)
pins: 1 A, 2 COMMON, 3 B, 4, 5

## Inductor
designator L?  value 1mH  (hidden comment: Inductor)
Revision: July-2002: Re-released for DXP Platform.
simulation model INDUCTOR (Inductor)
footprint COSMO - EE 3007 (Ferrite)
footprint TOROIDE TN14-9-5
footprint Toroide T2510C
footprint RES300TH (RESISTENCIA THROUGH-HOLE)
footprint RES400TH
footprint ind8mm
footprint L_10X12
footprint ind0810
footprint L_9X11
pins: 1, 2

## Inductor2
designator L?  value 1mH  (hidden comment: Inductor2)
Inductor; Revision: July-2002: Re-released for DXP Platform.
simulation model INDUCTOR (Inductor)
footprint COSMO - EE 3007 (Ferrite)
footprint TOROIDE TN14-9-5
footprint RES350TH (RESISTENCIA THROUGH-HOLE)
pins: 1, 2

## Inductor 100uHy; 1.5A; SRR1208-101YL
designator R?, comment Inductancia: 100uH  (hidden comment: SRR1208-101YL)
Inductor 100uHy; 1.5A; SRR1208-101YL; Dolares Mouser: 0.90; Dolares Mouser x10: 0.784; Codigo Mouser: 652-SRR1208-101YL; Dolares Mouser x100: 0.639; Dolares Mouser x250: 0.546
simulation model RESISTOR (Resistor)
footprint IND-SRR1208
pins: 1, 2

## Interruptor termomagnetico
designator ISH?
pins: 1, 2, 3, 4, 5, 6, 7, 8
text: I >

## Interruptor termomagnetico 2x
designator ISH?
pins: 1, 2, 3, 4
text: I >

## Inverter
designator U?
Inverter (simulación)
simulation model inv (SIMCODE)
pins: 1 A (in), 2 Y (out), 3 VCC (power), 4 GND (power)

## IR2104
designator U?
Half Bridge Driver; Revision: 17-Jul-2002: Re-released for DXP Platform.
footprint DIP8Z (ZOCALO DIP 8)
footprint so8 (SO8 IC)
pins: 1 VCC (power), 2 IN (in), 3 ~{SD} (in), 4 GND (power), 5 LO (out), 6 VS (power), 7 HO (out), 8 VB (power)

## IR2110
designator U?
High and Low Side Driver; Revision: 17-Jul-2002: Re-released for DXP Platform.
footprint DIP14Z (ZOCALO DIP14)
pins: 1 LO (out), 2 COM (power), 3 VCC (power), 4 NC, 5 VS (power), 6 VB (power), 7 HO (out), 8 NC, 9 VDD (power), 10 HIN (in), 11 SD (in), 12 LIN (in), 13 VSS (power), 14 NC

## IRF530
designator Q?
100V  14A 0.16 ohm N-Channel Power MOSFET; Price: ?
simulation model IRF530 (SUBCKT)
footprint TO220 (DISPOSITIVO DE ENCAPSULADO TO-220)
pins: 1 G, 2 D, 3 S

## IRF540
designator Q?
100V 27A 0.085 ohm N-Channel Power MOSFET; Price: ?
simulation model IRF540 (SUBCKT)
footprint TO220_3
footprint TO220 (DISPOSITIVO DE ENCAPSULADO TO-220)
pins: 1 G, 2 D, 3 S

## IRF540; TO220
designator Q?, comment IRF540
IRF540; TO220; Codigo Elemon: TR2003076; Dolares Elemon: 1.22077
footprint TO220 (DISPOSITIVO DE ENCAPSULADO TO-220)
pins: 1 G, 2 D, 3 S

## IRF640
designator Q?
200V 18A 0.18 ohm  HEXFET N-Channel Power MOSFET; Price: ?
simulation model IRF640 (SUBCKT)
footprint TO220 (DISPOSITIVO DE ENCAPSULADO TO-220)
footprint to220_2
pins: 1 G, 2 D, 3 S

## IRF740; TO220
designator Q?, comment IRF740
IRF740; TO220; Codigo Elemon: TR2003098; Dolares Elemon: 1.52982
footprint TO220 (DISPOSITIVO DE ENCAPSULADO TO-220)
pins: 1 G, 2 D, 3 S

## IRF830
designator Q?
500V  4.5A 1.35 ohm N-Channel Power MOSFET; Price: ?
simulation model IRF830 (SUBCKT)
footprint TO220 (DISPOSITIVO DE ENCAPSULADO TO-220)
footprint TO220_2
pins: 1 G, 2 D, 3 S

## IRF840
designator Q?
500V  8A 0.85 ohm N-Channel Power MOSFET; Price: ?
simulation model IRF840 (SUBCKT)
footprint TO220 (DISPOSITIVO DE ENCAPSULADO TO-220)
footprint TO220_2
simulation model IRF840V2 (SUBCKT)
pins: 1 G, 2 D, 3 S

## IRF9530
designator Q?
100V  12A 0.3 ohm Power Field Effect Transistor; Revision: 17-Jul-2002: Re-released for DXP Platform.
footprint TO220_2
footprint TO220 (DISPOSITIVO DE ENCAPSULADO TO-220)
pins: 1 G, 2 D, 3 S

## IRF9540
designator Q?
100V 19A 0.2 ohm Power Field Effect Transistor; Revision: 17-Jul-2002: Re-released for DXP Platform.
simulation model IRF9540 (SUBCKT)
footprint TO220_3; pin to pad 1>3 3>1
footprint TO220 (DISPOSITIVO DE ENCAPSULADO TO-220)
pins: 1 G, 2 D, 3 S

## IRF9541
designator Q?
80V 19A 0.15 ohm Power Field Effect Transistor; Revision: 17-Jul-2002: Re-released for DXP Platform.
simulation model IRF9541 (SUBCKT)
pins: 1 G, 2 D, 3 S

## IRF9642
designator Q?
200V  9A 0.35 ohm Power Field Effect Transistor; Revision: 17-Jul-2002: Re-released for DXP Platform.
simulation model IRF9642 (SUBCKT)
pins: 1 G, 2 D, 3 S

## IRFBE30
designator Q?
800V  4.1A 3.0 ohm N-Channel Power MOSFET; Price: ?
simulation model IRFBE30 (SUBCKT)
footprint TO220 (DISPOSITIVO DE ENCAPSULADO TO-220)
footprint TO220_2
pins: 1 G, 2 D, 3 S

## IRFD210
designator Q?
footprint dip4 (DIP14 IC)
pins: 1 D, 2 D, 3 G, 4 S

## IRFP460
designator Q?
500V 20A 0.22 ohm N-Channel Power MOSFET; Price: ?
footprint TO247
pins: 1 G, 2 D, 3 S

## IRFP9240
designator Q?
Revision: 17-Jul-2002: Re-released for DXP Platform.
footprint to247
pins: 1 G, 2 D, 3 S

## IRFZ44
designator Q?
55V  49A 0.028 ohm N-Channel Power MOSFET; Price: ?
simulation model IRFZ44 (SUBCKT)
pins: 1 G, 2 D, 3 S

## IRLML6401
designator Q?
Revision: 17-Jul-2002: Re-released for DXP Platform.
footprint SOT23
pins: 1 G, 2 S, 3 D

## JFET-N
designator J?
N-Channel JFET; Revision: July-2002: Re-released for DXP Platform.
simulation model JFET-N (SUBCKT)
simulation model MPF102 (SUBCKT)
pins: 1 D, 2 G, 3 S

## JFET-P
designator J?
P-Channel JFET; VT: 2; BETA: 1E-3; Revision: July-2002: Re-released for DXP Platform.
simulation model JFET-P (SUBCKT)
pins: 1 D, 2 G, 3 S

## Jumper 2 contactos; Header
designator JP?, comment 112-A-SS40G  (value not drawn)
Jumper 2 contactos; Header; Dolares Elemon x20: 0.34412; Codigo Elemon: CO4901010
footprint HDR2X1 (HEADER 2x1)
pins: 1, 2

## Jumper 2 contactos; Soldadura
designator JP?  (value not drawn)
footprint JUMPER2
pins: 1, 2

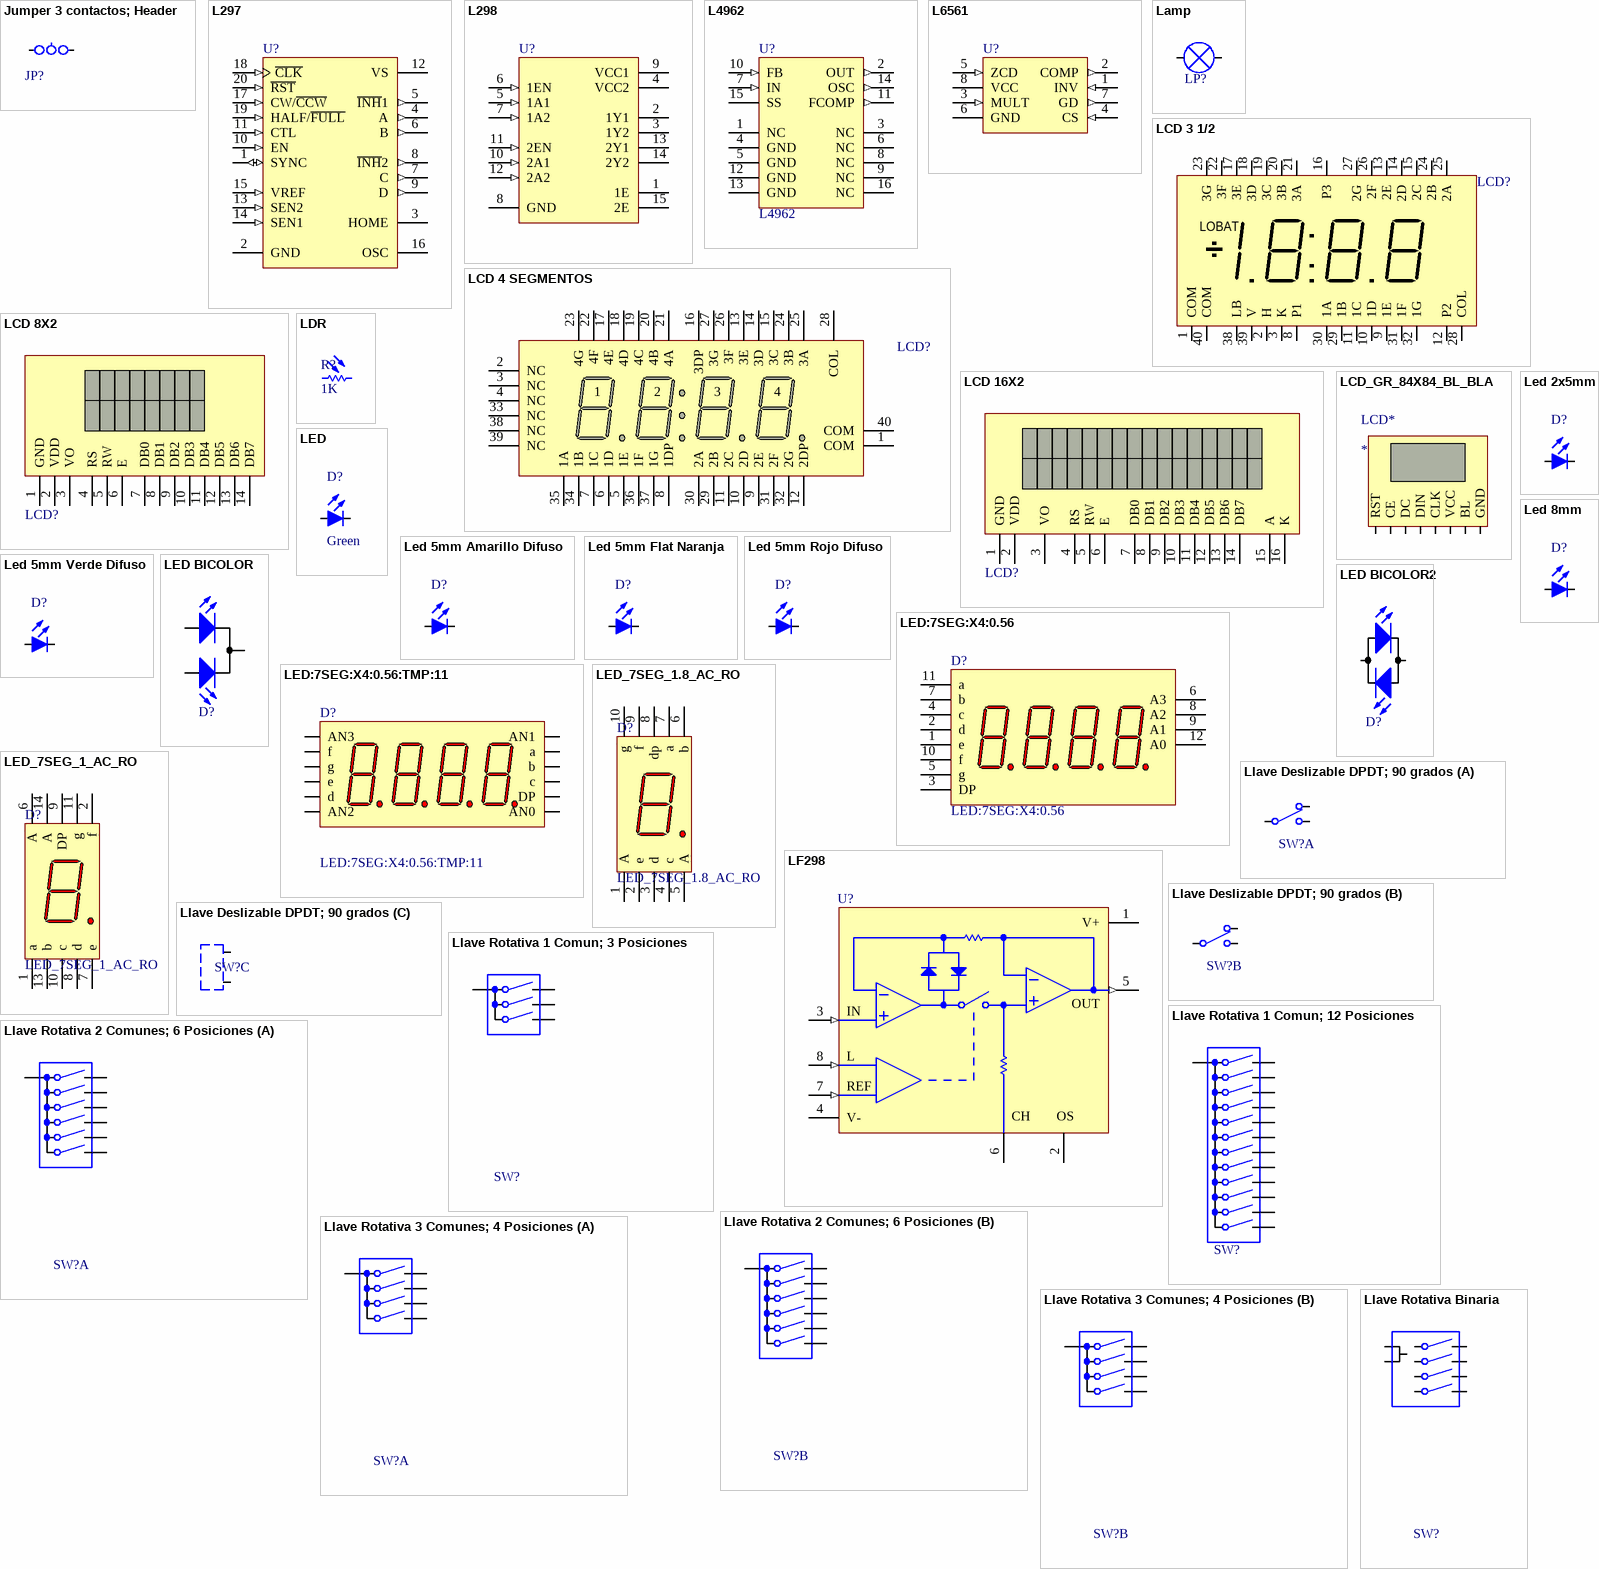
[diagram p12: symbols Jumper 3 contactos; Header to Llave Rotativa Binaria]

## Jumper 3 contactos; Header
designator JP?, comment 112-A-SS40G  (value not drawn)
Jumper 3 contactos; Header; Codigo Elemon: CO4901010; Dolares Elemon x10: 0.34412
footprint hdr3x1 (HEADER 3x1)
pins: 1, 2, 3

## L297
designator U?
Stepper Motor Controller; Revision: 17-Jul-2002: Re-released for DXP Platform.
footprint DIP20Z
pins: 1 SYNC (io), 2 GND (power), 3 HOME (oc), 4 A (out), 5 ~{INH}1 (out), 6 B (out), 7 C (out), 8 ~{INH}2 (out), 9 D (out), 10 EN (in), 11 CTL (in), 12 VS (power), 13 SEN2 (in), 14 SEN1 (in), 15 VREF (in), 16 OSC, 17 CW/~{CCW} (in), 18 ~{CLK} (in), 19 HALF/~{FULL} (in), 20 ~{RST} (in)

## L298
designator U?
Dual Full-H Driver; Price: ?
footprint TO220-15 (DISPOSITIVO DE ENCAPSULADO TO-220 DE 15 PNES)
pins: 1 1E, 2 1Y1 (hiz), 3 1Y2 (hiz), 4 VCC2 (power), 5 1A1 (in), 6 1EN (in), 7 1A2 (in), 8 GND (power), 9 VCC1 (power), 10 2A1 (in), 11 2EN (in), 12 2A2 (in), 13 2Y1 (hiz), 14 2Y2 (hiz), 15 2E

## L4962
designator U?
1.5A Power Switching Regulator
footprint DIP16z (ZOCALO DIP16)
pins: 1 NC, 2 OUT (out), 3 NC, 4 GND (power), 5 GND (power), 6 NC, 7 IN (in), 8 NC, 9 NC, 10 FB (in), 11 FCOMP (out), 12 GND (power), 13 GND (power), 14 OSC (out), 15 SS, 16 NC

## L6561
designator U?
Power Factor Corrector; Revision: 17-Jul-2002: Re-released for DXP Platform.
footprint DIP8Z (ZOCALO DIP 8)
pins: 1 INV (in), 2 COMP (out), 3 MULT (in), 4 CS (in), 5 ZCD (in), 6 GND (power), 7 GD (out), 8 VCC (power)

## Lamp
designator LP?
Indicator; Price: ?
footprint BORNERA_E2 (BORNERA ENCHUFABLE 2 CONTACTOS)
footprint bornera2
pins: 1, 2

## LCD 3 1/2
designator LCD?
Display LCD 3 1/2; Price: ?
footprint LCD4 (LCD 4 DIGITOS)
pins: 1 COM, 2 H, 3 K, 8 P1, 9 1E, 10 1D, 11 1C, 12 P2, 13 2E, 14 2D, 15 2C, 16 P3, 17 3E, 18 3D, 19 3C, 20 3B, 21 3A, 22 3F, 23 3G, 24 2B, 25 2A, 26 2F, 27 2G, 28 COL, 29 1B, 30 1A, 31 1F, 32 1G, 38 LB, 39 V, 40 COM
text: LOBAT